# Altium schematic symbol library parallella_schematic_Library.SchLib: 113 symbols (part 2 of 3)
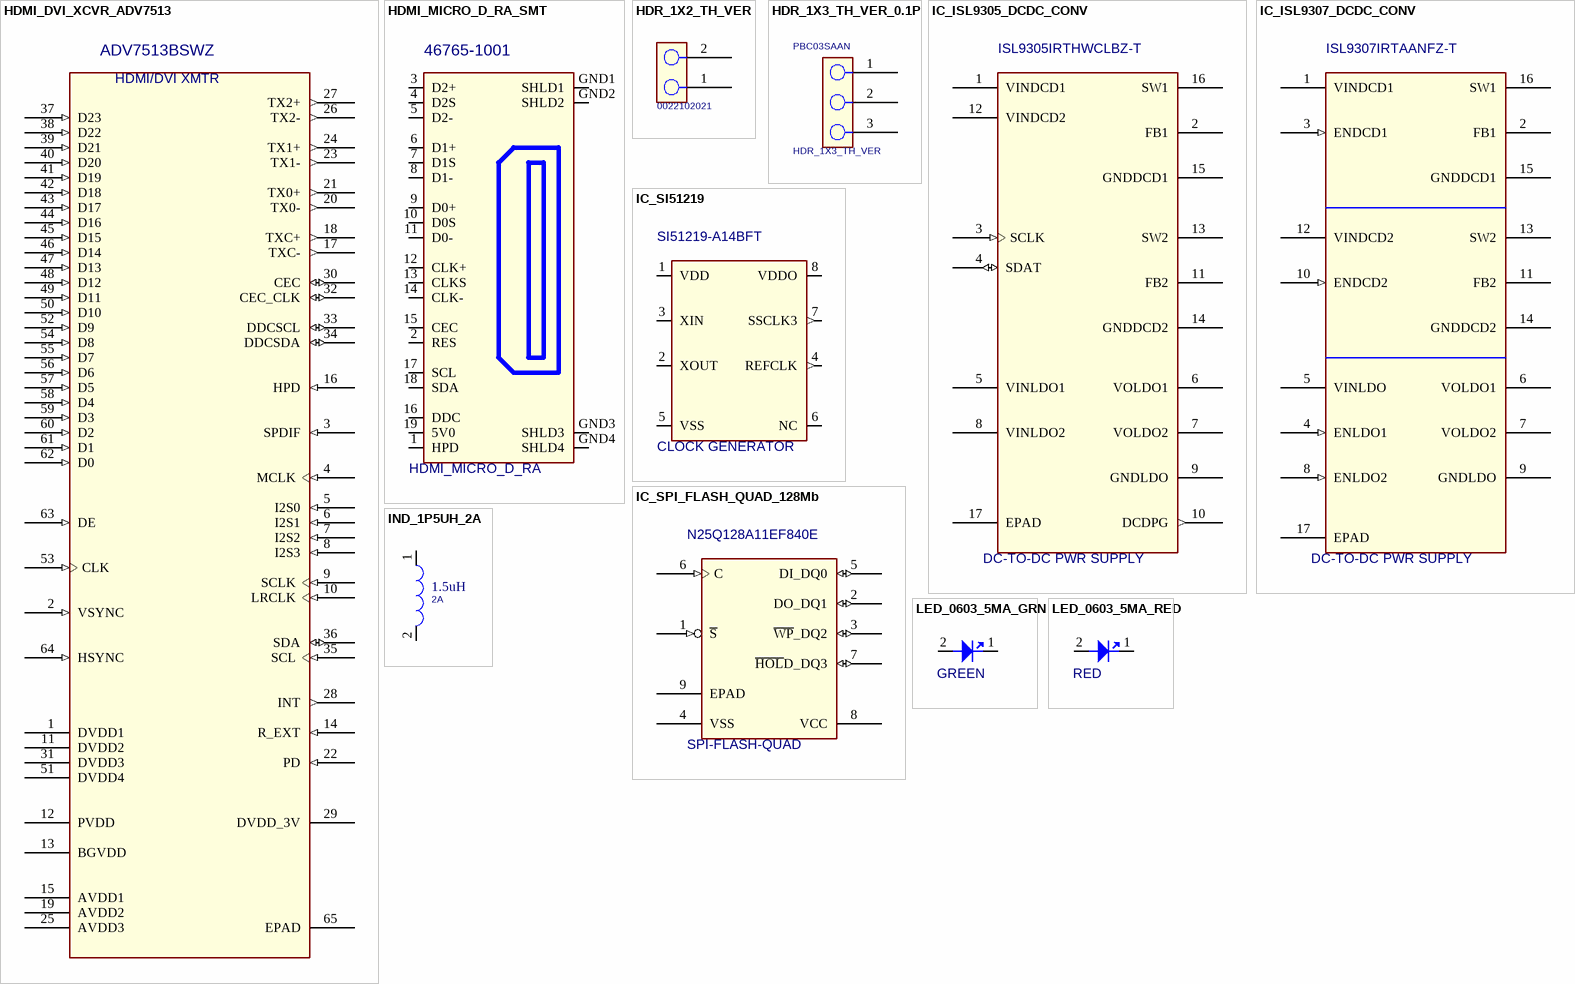
[diagram p24: symbols HDMI_DVI_XCVR_ADV7513 to LED_0603_5MA_RED]

## HDMI_MICRO_D_RA_SMT
designator J?, comment HDMI_MICRO_D_RA  MFG PART NO: 46765-1001
CONN, HDMI, RCPT, MICRO D, RA, SMT; Vendor: MOLEX; DEVICE: HDMI_MICRO_D_RA_SMT; Vendor PN: 46765-1001; MFG: MOLEX
footprint HDMI_MICRO19_6P5X7P5X2P9H_P4P
pins: 1 HPD, 2 RES, 3 D2+, 4 D2S, 5 D2-, 6 D1+, 7 D1S, 8 D1-, 9 D0+, 10 D0S, 11 D0-, 12 CLK+, 13 CLKS, 14 CLK-, 15 CEC, 16 DDC, 17 SCL, 18 SDA, 19 5V0 (power), GND1 SHLD1, GND2 SHLD2, GND3 SHLD3, GND4 SHLD4

## HDR_1X2_TH_VER
designator J?  Vendor PN: 0022102021  (hidden comment: HDR_1X2_TH_VER)
HDR, 1ROW, 2POS, VERT, TH, 1X2; MFG: MOLEX; DEVICE: HDR_1X2_TH_VER; MFG PART NO: 0022102021; Vendor: MOLEX
footprint HDR_1X2_TH_VER
pins: 1, 2

## HDR_1X3_TH_VER_0.1P
designator J?, comment HDR_1X3_TH_VER  Vendor PN: PBC03SAAN
HDR, 1ROW, 3POS, VERT, TH, 1X3, 0.100 PITCH; MFG PART NO: PBC36SAAN; Vendor: SULLINS; DEVICE: HDR_1X3_TH_VER_0.1P; MFG: SULLINS
footprint HDR_1X3_TH_VER
pins: 1, 2, 3

## IC_ISL9305_DCDC_CONV
designator U?, comment DC-TO-DC PWR SUPPLY  Vendor PN: ISL9305IRTHWCLBZ-T
IC, dual step-down converters + dual LDOs, I2C interface, TQFN16; MFG: INTERSIL; DEVICE: IC_ISL9305_DCDC_CONV; MFG PART NO: ISL9305IRTHWCLBZ-T; Vendor: INTERSIL
footprint TQFN16_4SQXP75H_P65P
pins: 1 VINDCD1, 2 FB1, 3 SCLK (in), 4 SDAT (io), 5 VINLDO1, 6 VOLDO1, 7 VOLDO2, 8 VINLDO2, 9 GNDLDO (power), 10 DCDPG (out), 11 FB2, 12 VINDCD2, 13 SW2, 14 GNDDCD2 (power), 15 GNDDCD1 (power), 16 SW1, 17 EPAD

## IC_ISL9307_DCDC_CONV
designator U?, comment DC-TO-DC PWR SUPPLY  Vendor PN: ISL9307IRTAANFZ-T
IC, dual step-down converters + dual LDOs, TQFN16; MFG: INTERSIL; DEVICE: IC_ISL9307_DCDC_CONV; MFG PART NO: ISL9307IRTAANFZ-T; Vendor: INTERSIL
footprint TQFN16_4SQXP75H_P65P
pins: 1 VINDCD1, 2 FB1, 3 ENDCD1 (in), 4 ENLDO1 (in), 5 VINLDO, 6 VOLDO1, 7 VOLDO2, 8 ENLDO2 (in), 9 GNDLDO (power), 10 ENDCD2 (in), 11 FB2, 12 VINDCD2, 13 SW2, 14 GNDDCD2 (power), 15 GNDDCD1 (power), 16 SW1, 17 EPAD

## IC_SI51219
designator U?, comment CLOCK GENERATOR  MFG PART NO: SI51219-A14BFT
IC, PROGRAMMABLE CLOCK GEN, 3 OUTPUTS, TSSOP8; MFG: SILICON LABS; Vendor: SILICON LABS; Vendor PN: SI51219-A14BFT
footprint TSSOP8_3X4P4X1P2H_P65MMP
pins: 1 VDD (power), 2 XOUT (io), 3 XIN (io), 4 REFCLK (out), 5 VSS (power), 6 NC, 7 SSCLK3 (out), 8 VDDO (power)

## IC_SPI_FLASH_QUAD_128Mb
designator U?, comment SPI-FLASH-QUAD  Vendor PN: N25Q128A11EF840E
SPI FLASH, QUAD, 128M-BIT, VPDFN8, 1.8V; MFG: MICRON; DEVICE: IC_SPI_FLASH_QUAD_128Mb; MFG PART NO: N25Q128A11EF840E; Vendor: MICRON
footprint VPDFN-8_6X8XP85H_1P27MMP
pins: 1 ~{S} (in), 2 DO_DQ1 (io), 3 ~{WP}_DQ2 (io), 4 VSS (power), 5 DI_DQ0 (io), 6 C (in), 7 ~{HOL}D_DQ3 (io), 8 VCC (power), 9 EPAD (power)

## IND_1P5UH_2A
designator L?, comment 1.5uH  CURRENT: 2A
IND, 1.5uH, 2A; MFG PART NO: VLS252012ET-1R5N; DEVICE: IND_1P5UH_2A; MFG: TDK; Vendor: TDK; Vendor PN: VLS252012ET-1R5N
footprint IND2_2X2P5X1P2MMH
pins: 1, 2

## LED_0603_5MA_GRN
designator CR?, comment GREEN
LED, 0603, 5MA, SMT, GREEN; MFG PART NO: LTST-C193KGKT-5A; Voltage: 2V; MFG: LITE-ON INC; Vendor: LITE-ON INC; Vendor PN: LTST-C193KGKT-5A
footprint LED_0603
pins: 1 C, 2 A

## LED_0603_5MA_RED
designator CR?, comment RED
LED, 0603, 5MA, SMT, RED; MFG PART NO: LTST-C193KRKT-5A; Voltage: 2V; MFG: LITE-ON INC; Vendor: LITE-ON INC; Vendor PN: LTST-C193KRKT-5A
footprint LED_0603
pins: 1 C, 2 A

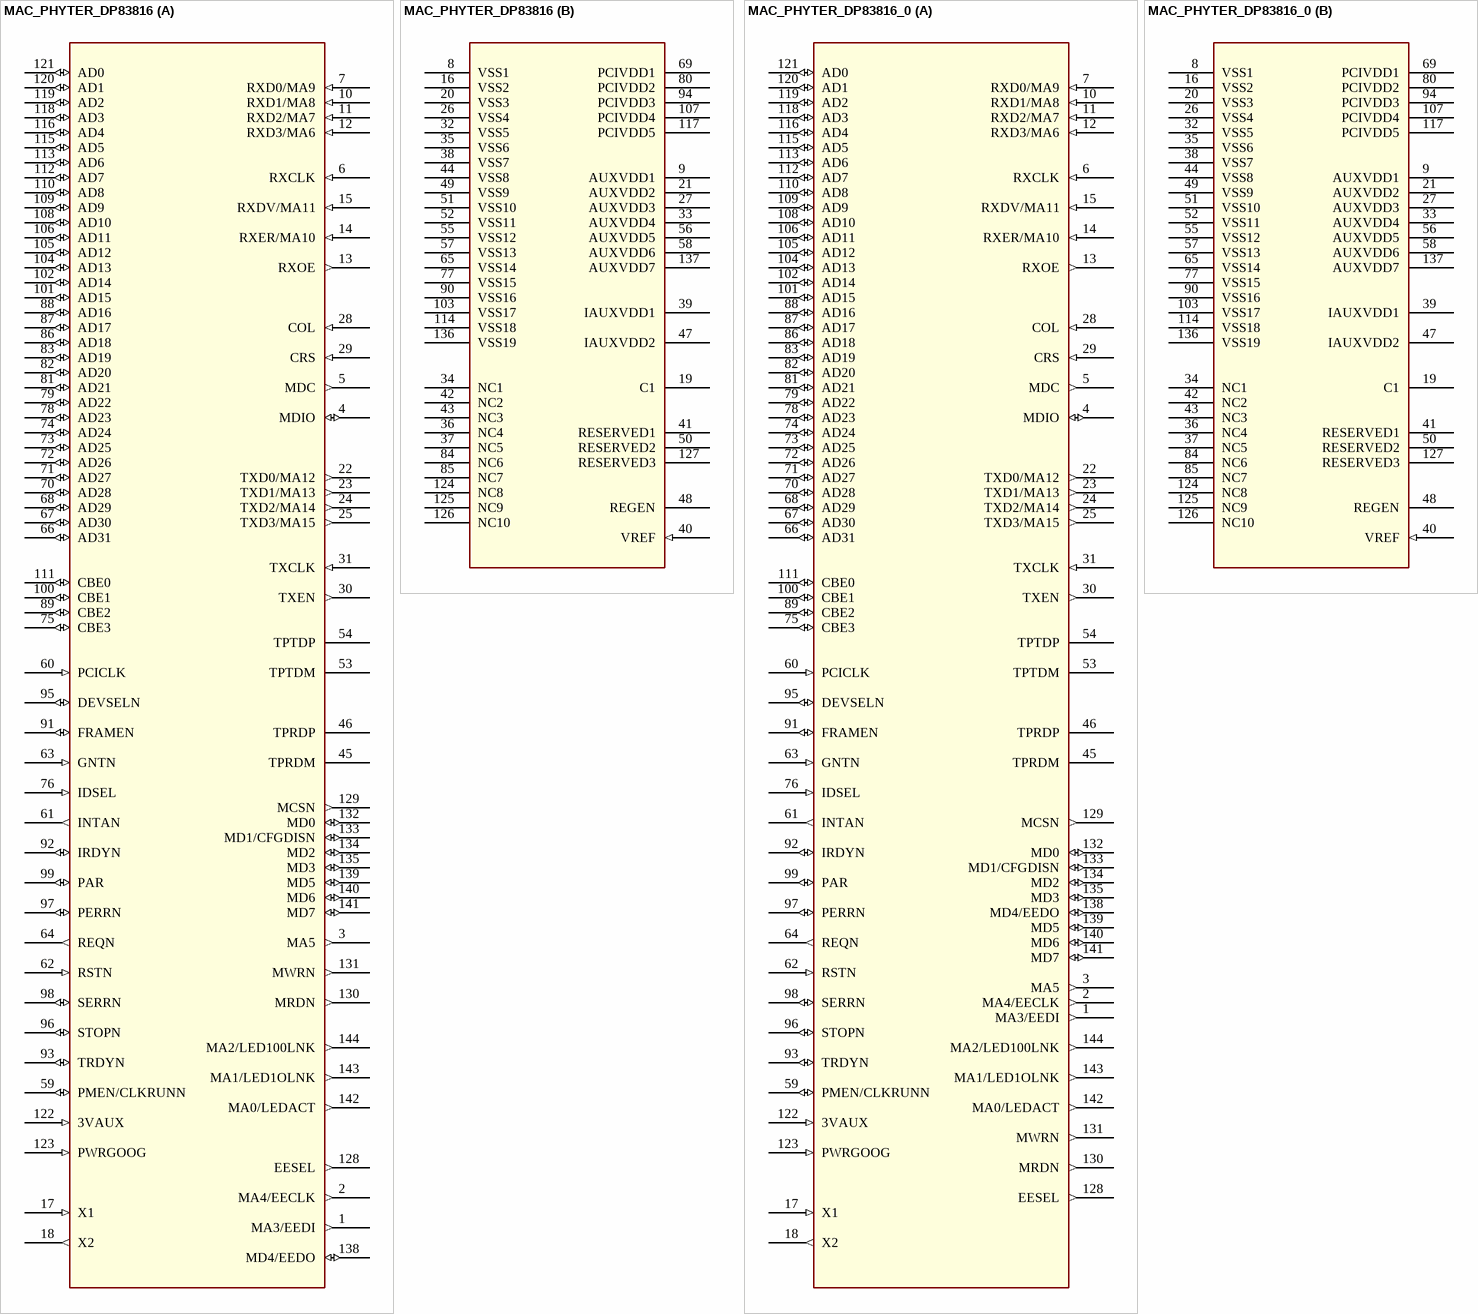
[diagram p10: symbols MAC_PHYTER_DP83816 to MAC_PHYTER_DP83816_0]

## MAC_PHYTER_DP83816
designator U?, comment ETHERNET_MAC  (value not drawn)
DEVICE: ICXXXXXX; PART_NUMBER: ICXXXXXX
footprint VNG144A
part A pins: 1 MA3/EEDI (out), 2 MA4/EECLK (out), 3 MA5 (out), 4 MDIO (io), 5 MDC (out), 6 RXCLK (in), 7 RXD0/MA9 (in), 10 RXD1/MA8 (in), 11 RXD2/MA7 (in), 12 RXD3/MA6 (in), 13 RXOE (out), 14 RXER/MA10 (in), 15 RXDV/MA11 (in), 17 X1 (in), 18 X2 (out), 22 TXD0/MA12 (out), 23 TXD1/MA13 (out), 24 TXD2/MA14 (out), 25 TXD3/MA15 (out), 28 COL (in), 29 CRS (in), 30 TXEN (out), 31 TXCLK (in), 45 TPRDM, 46 TPRDP, 53 TPTDM, 54 TPTDP, 59 PMEN/CLKRUNN (io), 60 PCICLK (in), 61 INTAN (out), 62 RSTN (in), 63 GNTN (in), 64 REQN (out), 66 AD31 (io), 67 AD30 (io), 68 AD29 (io), 70 AD28 (io), 71 AD27 (io), 72 AD26 (io), 73 AD25 (io), 74 AD24 (io), 75 CBE3 (io), 76 IDSEL (in), 78 AD23 (io), 79 AD22 (io), 81 AD21 (io), 82 AD20 (io), 83 AD19 (io), 86 AD18 (io), 87 AD17 (io), 88 AD16 (io), 89 CBE2 (io), 91 FRAMEN (io), 92 IRDYN (io), 93 TRDYN (io), 95 DEVSELN (io), 96 STOPN (io), 97 PERRN (io), 98 SERRN (io), 99 PAR (io), 100 CBE1 (io), 101 AD15 (io), 102 AD14 (io), 104 AD13 (io), 105 AD12 (io), 106 AD11 (io), 108 AD10 (io), 109 AD9 (io), 110 AD8 (io), 111 CBE0 (io), 112 AD7 (io), 113 AD6 (io), 115 AD5 (io), 116 AD4 (io), 118 AD3 (io), 119 AD2 (io), 120 AD1 (io), 121 AD0 (io), 122 3VAUX (in), 123 PWRGOOG (in), 128 EESEL (out), 129 MCSN (out), 130 MRDN (out), 131 MWRN (out), 132 MD0 (io), 133 MD1/CFGDISN (io), 134 MD2 (io), 135 MD3 (io), 138 MD4/EEDO (io), 139 MD5 (io), 140 MD6 (io), 141 MD7 (io), 142 MA0/LEDACT (out), 143 MA1/LED1OLNK (out), 144 MA2/LED100LNK (out)
part B pins: 8 VSS1 (power), 9 AUXVDD1 (power), 16 VSS2 (power), 19 C1 (power), 20 VSS3 (power), 21 AUXVDD2 (power), 26 VSS4 (power), 27 AUXVDD3 (power), 32 VSS5 (power), 33 AUXVDD4 (power), 34 NC1, 35 VSS6 (power), 36 NC4, 37 NC5, 38 VSS7 (power), 39 IAUXVDD1 (power), 40 VREF (in), 41 RESERVED1, 42 NC2, 43 NC3, 44 VSS8 (power), 47 IAUXVDD2 (power), 48 REGEN, 49 VSS9 (power), 50 RESERVED2, 51 VSS10 (power), 52 VSS11 (power), 55 VSS12 (power), 56 AUXVDD5 (power), 57 VSS13 (power), 58 AUXVDD6 (power), 65 VSS14 (power), 69 PCIVDD1 (power), 77 VSS15 (power), 80 PCIVDD2 (power), 84 NC6, 85 NC7, 90 VSS16 (power), 94 PCIVDD3 (power), 103 VSS17 (power), 107 PCIVDD4 (power), 114 VSS18 (power), 117 PCIVDD5 (power), 124 NC8, 125 NC9, 126 NC10, 127 RESERVED3, 136 VSS19 (power), 137 AUXVDD7 (power)

## MAC_PHYTER_DP83816_0
designator U?, comment ETHERNET_MAC  (value not drawn)
DEVICE: ICXXXXXX; PART_NUMBER: ICXXXXXX
footprint VNG144A
part A pins: 1 MA3/EEDI (out), 2 MA4/EECLK (out), 3 MA5 (out), 4 MDIO (io), 5 MDC (out), 6 RXCLK (in), 7 RXD0/MA9 (in), 10 RXD1/MA8 (in), 11 RXD2/MA7 (in), 12 RXD3/MA6 (in), 13 RXOE (out), 14 RXER/MA10 (in), 15 RXDV/MA11 (in), 17 X1 (in), 18 X2 (out), 22 TXD0/MA12 (out), 23 TXD1/MA13 (out), 24 TXD2/MA14 (out), 25 TXD3/MA15 (out), 28 COL (in), 29 CRS (in), 30 TXEN (out), 31 TXCLK (in), 45 TPRDM, 46 TPRDP, 53 TPTDM, 54 TPTDP, 59 PMEN/CLKRUNN (io), 60 PCICLK (in), 61 INTAN (out), 62 RSTN (in), 63 GNTN (in), 64 REQN (out), 66 AD31 (io), 67 AD30 (io), 68 AD29 (io), 70 AD28 (io), 71 AD27 (io), 72 AD26 (io), 73 AD25 (io), 74 AD24 (io), 75 CBE3 (io), 76 IDSEL (in), 78 AD23 (io), 79 AD22 (io), 81 AD21 (io), 82 AD20 (io), 83 AD19 (io), 86 AD18 (io), 87 AD17 (io), 88 AD16 (io), 89 CBE2 (io), 91 FRAMEN (io), 92 IRDYN (io), 93 TRDYN (io), 95 DEVSELN (io), 96 STOPN (io), 97 PERRN (io), 98 SERRN (io), 99 PAR (io), 100 CBE1 (io), 101 AD15 (io), 102 AD14 (io), 104 AD13 (io), 105 AD12 (io), 106 AD11 (io), 108 AD10 (io), 109 AD9 (io), 110 AD8 (io), 111 CBE0 (io), 112 AD7 (io), 113 AD6 (io), 115 AD5 (io), 116 AD4 (io), 118 AD3 (io), 119 AD2 (io), 120 AD1 (io), 121 AD0 (io), 122 3VAUX (in), 123 PWRGOOG (in), 128 EESEL (out), 129 MCSN (out), 130 MRDN (out), 131 MWRN (out), 132 MD0 (io), 133 MD1/CFGDISN (io), 134 MD2 (io), 135 MD3 (io), 138 MD4/EEDO (io), 139 MD5 (io), 140 MD6 (io), 141 MD7 (io), 142 MA0/LEDACT (out), 143 MA1/LED1OLNK (out), 144 MA2/LED100LNK (out)
part B pins: 8 VSS1 (power), 9 AUXVDD1 (power), 16 VSS2 (power), 19 C1 (power), 20 VSS3 (power), 21 AUXVDD2 (power), 26 VSS4 (power), 27 AUXVDD3 (power), 32 VSS5 (power), 33 AUXVDD4 (power), 34 NC1, 35 VSS6 (power), 36 NC4, 37 NC5, 38 VSS7 (power), 39 IAUXVDD1 (power), 40 VREF (in), 41 RESERVED1, 42 NC2, 43 NC3, 44 VSS8 (power), 47 IAUXVDD2 (power), 48 REGEN, 49 VSS9 (power), 50 RESERVED2, 51 VSS10 (power), 52 VSS11 (power), 55 VSS12 (power), 56 AUXVDD5 (power), 57 VSS13 (power), 58 AUXVDD6 (power), 65 VSS14 (power), 69 PCIVDD1 (power), 77 VSS15 (power), 80 PCIVDD2 (power), 84 NC6, 85 NC7, 90 VSS16 (power), 94 PCIVDD3 (power), 103 VSS17 (power), 107 PCIVDD4 (power), 114 VSS18 (power), 117 PCIVDD5 (power), 124 NC8, 125 NC9, 126 NC10, 127 RESERVED3, 136 VSS19 (power), 137 AUXVDD7 (power)

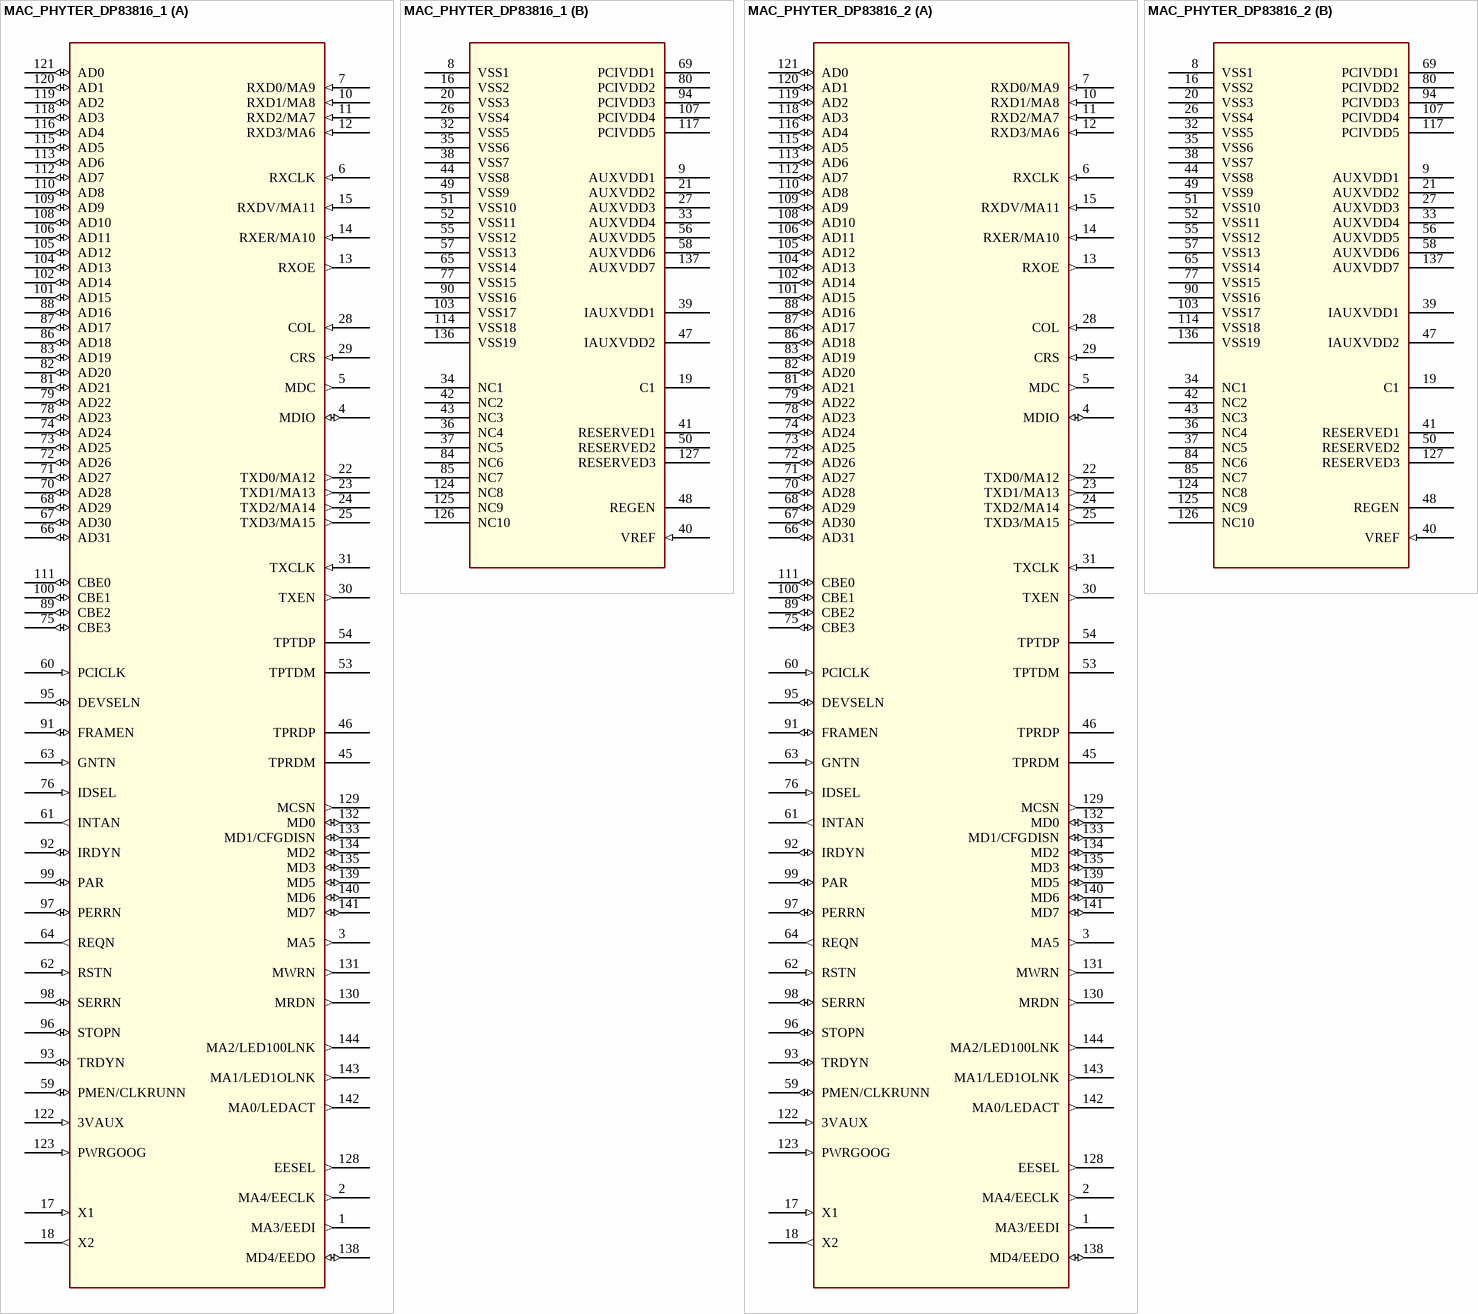
[diagram p11: symbols MAC_PHYTER_DP83816_1 to MAC_PHYTER_DP83816_2]

## MAC_PHYTER_DP83816_1
designator U?, comment ETHERNET_MAC  (value not drawn)
DEVICE: ICXXXXXX; PART_NUMBER: ICXXXXXX
footprint VNG144A
part A pins: 1 MA3/EEDI (out), 2 MA4/EECLK (out), 3 MA5 (out), 4 MDIO (io), 5 MDC (out), 6 RXCLK (in), 7 RXD0/MA9 (in), 10 RXD1/MA8 (in), 11 RXD2/MA7 (in), 12 RXD3/MA6 (in), 13 RXOE (out), 14 RXER/MA10 (in), 15 RXDV/MA11 (in), 17 X1 (in), 18 X2 (out), 22 TXD0/MA12 (out), 23 TXD1/MA13 (out), 24 TXD2/MA14 (out), 25 TXD3/MA15 (out), 28 COL (in), 29 CRS (in), 30 TXEN (out), 31 TXCLK (in), 45 TPRDM, 46 TPRDP, 53 TPTDM, 54 TPTDP, 59 PMEN/CLKRUNN (io), 60 PCICLK (in), 61 INTAN (out), 62 RSTN (in), 63 GNTN (in), 64 REQN (out), 66 AD31 (io), 67 AD30 (io), 68 AD29 (io), 70 AD28 (io), 71 AD27 (io), 72 AD26 (io), 73 AD25 (io), 74 AD24 (io), 75 CBE3 (io), 76 IDSEL (in), 78 AD23 (io), 79 AD22 (io), 81 AD21 (io), 82 AD20 (io), 83 AD19 (io), 86 AD18 (io), 87 AD17 (io), 88 AD16 (io), 89 CBE2 (io), 91 FRAMEN (io), 92 IRDYN (io), 93 TRDYN (io), 95 DEVSELN (io), 96 STOPN (io), 97 PERRN (io), 98 SERRN (io), 99 PAR (io), 100 CBE1 (io), 101 AD15 (io), 102 AD14 (io), 104 AD13 (io), 105 AD12 (io), 106 AD11 (io), 108 AD10 (io), 109 AD9 (io), 110 AD8 (io), 111 CBE0 (io), 112 AD7 (io), 113 AD6 (io), 115 AD5 (io), 116 AD4 (io), 118 AD3 (io), 119 AD2 (io), 120 AD1 (io), 121 AD0 (io), 122 3VAUX (in), 123 PWRGOOG (in), 128 EESEL (out), 129 MCSN (out), 130 MRDN (out), 131 MWRN (out), 132 MD0 (io), 133 MD1/CFGDISN (io), 134 MD2 (io), 135 MD3 (io), 138 MD4/EEDO (io), 139 MD5 (io), 140 MD6 (io), 141 MD7 (io), 142 MA0/LEDACT (out), 143 MA1/LED1OLNK (out), 144 MA2/LED100LNK (out)
part B pins: 8 VSS1 (power), 9 AUXVDD1 (power), 16 VSS2 (power), 19 C1 (power), 20 VSS3 (power), 21 AUXVDD2 (power), 26 VSS4 (power), 27 AUXVDD3 (power), 32 VSS5 (power), 33 AUXVDD4 (power), 34 NC1, 35 VSS6 (power), 36 NC4, 37 NC5, 38 VSS7 (power), 39 IAUXVDD1 (power), 40 VREF (in), 41 RESERVED1, 42 NC2, 43 NC3, 44 VSS8 (power), 47 IAUXVDD2 (power), 48 REGEN, 49 VSS9 (power), 50 RESERVED2, 51 VSS10 (power), 52 VSS11 (power), 55 VSS12 (power), 56 AUXVDD5 (power), 57 VSS13 (power), 58 AUXVDD6 (power), 65 VSS14 (power), 69 PCIVDD1 (power), 77 VSS15 (power), 80 PCIVDD2 (power), 84 NC6, 85 NC7, 90 VSS16 (power), 94 PCIVDD3 (power), 103 VSS17 (power), 107 PCIVDD4 (power), 114 VSS18 (power), 117 PCIVDD5 (power), 124 NC8, 125 NC9, 126 NC10, 127 RESERVED3, 136 VSS19 (power), 137 AUXVDD7 (power)

## MAC_PHYTER_DP83816_2
designator U?, comment ETHERNET_MAC  (value not drawn)
DEVICE: ICXXXXXX; PART_NUMBER: ICXXXXXX
footprint VNG144A
part A pins: 1 MA3/EEDI (out), 2 MA4/EECLK (out), 3 MA5 (out), 4 MDIO (io), 5 MDC (out), 6 RXCLK (in), 7 RXD0/MA9 (in), 10 RXD1/MA8 (in), 11 RXD2/MA7 (in), 12 RXD3/MA6 (in), 13 RXOE (out), 14 RXER/MA10 (in), 15 RXDV/MA11 (in), 17 X1 (in), 18 X2 (out), 22 TXD0/MA12 (out), 23 TXD1/MA13 (out), 24 TXD2/MA14 (out), 25 TXD3/MA15 (out), 28 COL (in), 29 CRS (in), 30 TXEN (out), 31 TXCLK (in), 45 TPRDM, 46 TPRDP, 53 TPTDM, 54 TPTDP, 59 PMEN/CLKRUNN (io), 60 PCICLK (in), 61 INTAN (out), 62 RSTN (in), 63 GNTN (in), 64 REQN (out), 66 AD31 (io), 67 AD30 (io), 68 AD29 (io), 70 AD28 (io), 71 AD27 (io), 72 AD26 (io), 73 AD25 (io), 74 AD24 (io), 75 CBE3 (io), 76 IDSEL (in), 78 AD23 (io), 79 AD22 (io), 81 AD21 (io), 82 AD20 (io), 83 AD19 (io), 86 AD18 (io), 87 AD17 (io), 88 AD16 (io), 89 CBE2 (io), 91 FRAMEN (io), 92 IRDYN (io), 93 TRDYN (io), 95 DEVSELN (io), 96 STOPN (io), 97 PERRN (io), 98 SERRN (io), 99 PAR (io), 100 CBE1 (io), 101 AD15 (io), 102 AD14 (io), 104 AD13 (io), 105 AD12 (io), 106 AD11 (io), 108 AD10 (io), 109 AD9 (io), 110 AD8 (io), 111 CBE0 (io), 112 AD7 (io), 113 AD6 (io), 115 AD5 (io), 116 AD4 (io), 118 AD3 (io), 119 AD2 (io), 120 AD1 (io), 121 AD0 (io), 122 3VAUX (in), 123 PWRGOOG (in), 128 EESEL (out), 129 MCSN (out), 130 MRDN (out), 131 MWRN (out), 132 MD0 (io), 133 MD1/CFGDISN (io), 134 MD2 (io), 135 MD3 (io), 138 MD4/EEDO (io), 139 MD5 (io), 140 MD6 (io), 141 MD7 (io), 142 MA0/LEDACT (out), 143 MA1/LED1OLNK (out), 144 MA2/LED100LNK (out)
part B pins: 8 VSS1 (power), 9 AUXVDD1 (power), 16 VSS2 (power), 19 C1 (power), 20 VSS3 (power), 21 AUXVDD2 (power), 26 VSS4 (power), 27 AUXVDD3 (power), 32 VSS5 (power), 33 AUXVDD4 (power), 34 NC1, 35 VSS6 (power), 36 NC4, 37 NC5, 38 VSS7 (power), 39 IAUXVDD1 (power), 40 VREF (in), 41 RESERVED1, 42 NC2, 43 NC3, 44 VSS8 (power), 47 IAUXVDD2 (power), 48 REGEN, 49 VSS9 (power), 50 RESERVED2, 51 VSS10 (power), 52 VSS11 (power), 55 VSS12 (power), 56 AUXVDD5 (power), 57 VSS13 (power), 58 AUXVDD6 (power), 65 VSS14 (power), 69 PCIVDD1 (power), 77 VSS15 (power), 80 PCIVDD2 (power), 84 NC6, 85 NC7, 90 VSS16 (power), 94 PCIVDD3 (power), 103 VSS17 (power), 107 PCIVDD4 (power), 114 VSS18 (power), 117 PCIVDD5 (power), 124 NC8, 125 NC9, 126 NC10, 127 RESERVED3, 136 VSS19 (power), 137 AUXVDD7 (power)

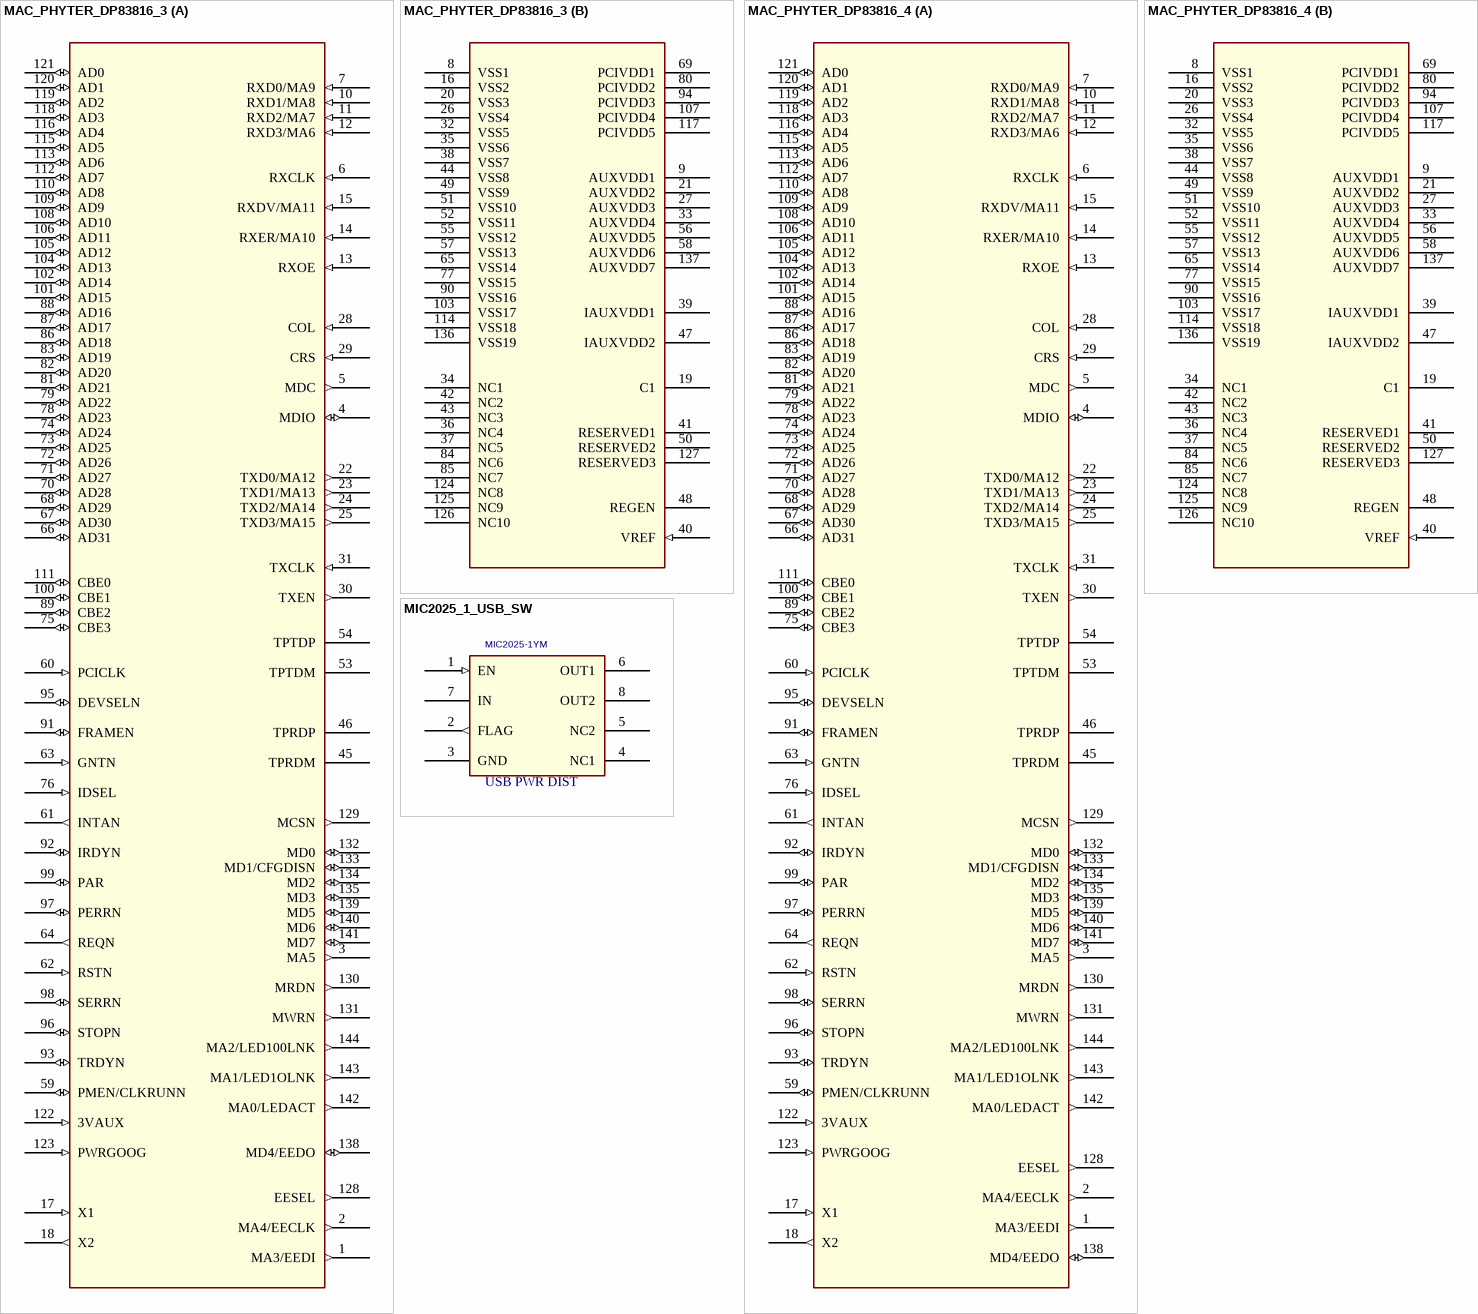
[diagram p12: symbols MAC_PHYTER_DP83816_3 to MIC2025_1_USB_SW]

## MAC_PHYTER_DP83816_3
designator U?, comment ETHERNET_MAC  (value not drawn)
DEVICE: ICXXXXXX; PART_NUMBER: ICXXXXXX
footprint VNG144A
part A pins: 1 MA3/EEDI (out), 2 MA4/EECLK (out), 3 MA5 (out), 4 MDIO (io), 5 MDC (out), 6 RXCLK (in), 7 RXD0/MA9 (in), 10 RXD1/MA8 (in), 11 RXD2/MA7 (in), 12 RXD3/MA6 (in), 13 RXOE (in), 14 RXER/MA10 (in), 15 RXDV/MA11 (in), 17 X1 (in), 18 X2 (out), 22 TXD0/MA12 (out), 23 TXD1/MA13 (out), 24 TXD2/MA14 (out), 25 TXD3/MA15 (out), 28 COL (in), 29 CRS (in), 30 TXEN (out), 31 TXCLK (in), 45 TPRDM, 46 TPRDP, 53 TPTDM, 54 TPTDP, 59 PMEN/CLKRUNN (io), 60 PCICLK (in), 61 INTAN (out), 62 RSTN (in), 63 GNTN (in), 64 REQN (out), 66 AD31 (io), 67 AD30 (io), 68 AD29 (io), 70 AD28 (io), 71 AD27 (io), 72 AD26 (io), 73 AD25 (io), 74 AD24 (io), 75 CBE3 (io), 76 IDSEL (in), 78 AD23 (io), 79 AD22 (io), 81 AD21 (io), 82 AD20 (io), 83 AD19 (io), 86 AD18 (io), 87 AD17 (io), 88 AD16 (io), 89 CBE2 (io), 91 FRAMEN (io), 92 IRDYN (io), 93 TRDYN (io), 95 DEVSELN (io), 96 STOPN (io), 97 PERRN (io), 98 SERRN (io), 99 PAR (io), 100 CBE1 (io), 101 AD15 (io), 102 AD14 (io), 104 AD13 (io), 105 AD12 (io), 106 AD11 (io), 108 AD10 (io), 109 AD9 (io), 110 AD8 (io), 111 CBE0 (io), 112 AD7 (io), 113 AD6 (io), 115 AD5 (io), 116 AD4 (io), 118 AD3 (io), 119 AD2 (io), 120 AD1 (io), 121 AD0 (io), 122 3VAUX (in), 123 PWRGOOG (in), 128 EESEL (out), 129 MCSN (out), 130 MRDN (out), 131 MWRN (out), 132 MD0 (io), 133 MD1/CFGDISN (io), 134 MD2 (io), 135 MD3 (io), 138 MD4/EEDO (io), 139 MD5 (io), 140 MD6 (io), 141 MD7 (io), 142 MA0/LEDACT (out), 143 MA1/LED1OLNK (out), 144 MA2/LED100LNK (out)
part B pins: 8 VSS1 (power), 9 AUXVDD1 (power), 16 VSS2 (power), 19 C1 (power), 20 VSS3 (power), 21 AUXVDD2 (power), 26 VSS4 (power), 27 AUXVDD3 (power), 32 VSS5 (power), 33 AUXVDD4 (power), 34 NC1, 35 VSS6 (power), 36 NC4, 37 NC5, 38 VSS7 (power), 39 IAUXVDD1 (power), 40 VREF (in), 41 RESERVED1, 42 NC2, 43 NC3, 44 VSS8 (power), 47 IAUXVDD2 (power), 48 REGEN, 49 VSS9 (power), 50 RESERVED2, 51 VSS10 (power), 52 VSS11 (power), 55 VSS12 (power), 56 AUXVDD5 (power), 57 VSS13 (power), 58 AUXVDD6 (power), 65 VSS14 (power), 69 PCIVDD1 (power), 77 VSS15 (power), 80 PCIVDD2 (power), 84 NC6, 85 NC7, 90 VSS16 (power), 94 PCIVDD3 (power), 103 VSS17 (power), 107 PCIVDD4 (power), 114 VSS18 (power), 117 PCIVDD5 (power), 124 NC8, 125 NC9, 126 NC10, 127 RESERVED3, 136 VSS19 (power), 137 AUXVDD7 (power)

## MAC_PHYTER_DP83816_4
designator U?, comment ETHERNET_MAC  (value not drawn)
DEVICE: ICXXXXXX; PART_NUMBER: ICXXXXXX
footprint VNG144A
part A pins: 1 MA3/EEDI (out), 2 MA4/EECLK (out), 3 MA5 (out), 4 MDIO (io), 5 MDC (out), 6 RXCLK (in), 7 RXD0/MA9 (in), 10 RXD1/MA8 (in), 11 RXD2/MA7 (in), 12 RXD3/MA6 (in), 13 RXOE (in), 14 RXER/MA10 (in), 15 RXDV/MA11 (in), 17 X1 (in), 18 X2 (out), 22 TXD0/MA12 (out), 23 TXD1/MA13 (out), 24 TXD2/MA14 (out), 25 TXD3/MA15 (out), 28 COL (in), 29 CRS (in), 30 TXEN (out), 31 TXCLK (in), 45 TPRDM, 46 TPRDP, 53 TPTDM, 54 TPTDP, 59 PMEN/CLKRUNN (io), 60 PCICLK (in), 61 INTAN (out), 62 RSTN (in), 63 GNTN (in), 64 REQN (out), 66 AD31 (io), 67 AD30 (io), 68 AD29 (io), 70 AD28 (io), 71 AD27 (io), 72 AD26 (io), 73 AD25 (io), 74 AD24 (io), 75 CBE3 (io), 76 IDSEL (in), 78 AD23 (io), 79 AD22 (io), 81 AD21 (io), 82 AD20 (io), 83 AD19 (io), 86 AD18 (io), 87 AD17 (io), 88 AD16 (io), 89 CBE2 (io), 91 FRAMEN (io), 92 IRDYN (io), 93 TRDYN (io), 95 DEVSELN (io), 96 STOPN (io), 97 PERRN (io), 98 SERRN (io), 99 PAR (io), 100 CBE1 (io), 101 AD15 (io), 102 AD14 (io), 104 AD13 (io), 105 AD12 (io), 106 AD11 (io), 108 AD10 (io), 109 AD9 (io), 110 AD8 (io), 111 CBE0 (io), 112 AD7 (io), 113 AD6 (io), 115 AD5 (io), 116 AD4 (io), 118 AD3 (io), 119 AD2 (io), 120 AD1 (io), 121 AD0 (io), 122 3VAUX (in), 123 PWRGOOG (in), 128 EESEL (out), 129 MCSN (out), 130 MRDN (out), 131 MWRN (out), 132 MD0 (io), 133 MD1/CFGDISN (io), 134 MD2 (io), 135 MD3 (io), 138 MD4/EEDO (io), 139 MD5 (io), 140 MD6 (io), 141 MD7 (io), 142 MA0/LEDACT (out), 143 MA1/LED1OLNK (out), 144 MA2/LED100LNK (out)
part B pins: 8 VSS1 (power), 9 AUXVDD1 (power), 16 VSS2 (power), 19 C1 (power), 20 VSS3 (power), 21 AUXVDD2 (power), 26 VSS4 (power), 27 AUXVDD3 (power), 32 VSS5 (power), 33 AUXVDD4 (power), 34 NC1, 35 VSS6 (power), 36 NC4, 37 NC5, 38 VSS7 (power), 39 IAUXVDD1 (power), 40 VREF (in), 41 RESERVED1, 42 NC2, 43 NC3, 44 VSS8 (power), 47 IAUXVDD2 (power), 48 REGEN, 49 VSS9 (power), 50 RESERVED2, 51 VSS10 (power), 52 VSS11 (power), 55 VSS12 (power), 56 AUXVDD5 (power), 57 VSS13 (power), 58 AUXVDD6 (power), 65 VSS14 (power), 69 PCIVDD1 (power), 77 VSS15 (power), 80 PCIVDD2 (power), 84 NC6, 85 NC7, 90 VSS16 (power), 94 PCIVDD3 (power), 103 VSS17 (power), 107 PCIVDD4 (power), 114 VSS18 (power), 117 PCIVDD5 (power), 124 NC8, 125 NC9, 126 NC10, 127 RESERVED3, 136 VSS19 (power), 137 AUXVDD7 (power)

## MIC2025_1_USB_SW
designator U?, comment USB PWR DIST  Vendor PN: MIC2025-1YM
IC, USB DISTRIBUTION SW, 1 CH, SOIC8; DEVICE: MIC2025_1_USB_SW; Vendor: MICREL
footprint SOIC8_33P94X4P93X1P63H_P65P
pins: 1 EN (in), 2 FLAG (out), 3 GND (power), 4 NC1, 5 NC2, 6 OUT1 (power), 7 IN (power), 8 OUT2 (power)

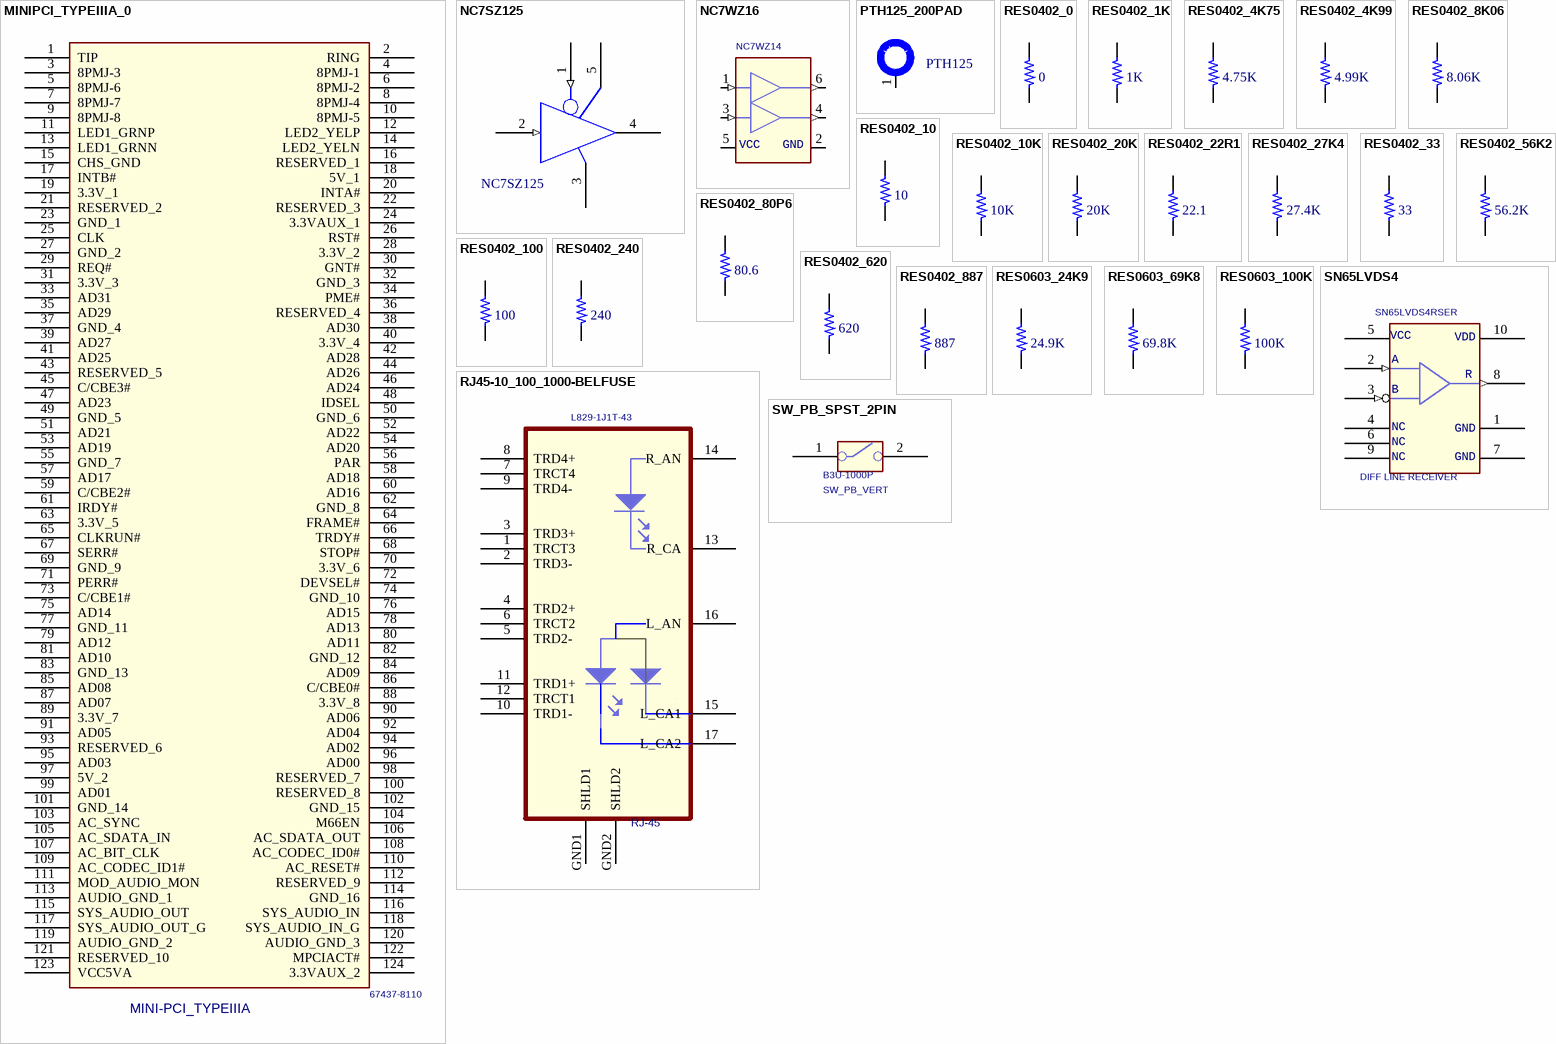
[diagram p13: symbols MINIPCI_TYPEIIIA_0 to SW_PB_SPST_2PIN]

## MINIPCI_TYPEIIIA_0
designator J?, comment MINI-PCI_TYPEIIIA  PART_NUMBER: 67437-8110
Mini PCI, 124-pin, Type IIIA, 0.8mm Pitch, 4mm Hight; DEVICE: MINIPCI_TYPEIIIA
footprint CON_PCI5V
pins: 1 TIP, 2 RING, 3 8PMJ-3, 4 8PMJ-1, 5 8PMJ-6, 6 8PMJ-2, 7 8PMJ-7, 8 8PMJ-4, 9 8PMJ-8, 10 8PMJ-5, 11 LED1_GRNP, 12 LED2_YELP, 13 LED1_GRNN, 14 LED2_YELN, 15 CHS_GND, 16 RESERVED_1, 17 INTB#, 18 5V_1, 19 3.3V_1, 20 INTA#, 21 RESERVED_2, 22 RESERVED_3, 23 GND_1, 24 3.3VAUX_1, 25 CLK, 26 RST#, 27 GND_2, 28 3.3V_2, 29 REQ#, 30 GNT#, 31 3.3V_3, 32 GND_3, 33 AD31, 34 PME#, 35 AD29, 36 RESERVED_4, 37 GND_4, 38 AD30, 39 AD27, 40 3.3V_4, 41 AD25, 42 AD28, 43 RESERVED_5, 44 AD26, 45 C/CBE3#, 46 AD24, 47 AD23, 48 IDSEL, 49 GND_5, 50 GND_6, 51 AD21, 52 AD22, 53 AD19, 54 AD20, 55 GND_7, 56 PAR, 57 AD17, 58 AD18, 59 C/CBE2#, 60 AD16, 61 IRDY#, 62 GND_8, 63 3.3V_5, 64 FRAME#, 65 CLKRUN#, 66 TRDY#, 67 SERR#, 68 STOP#, 69 GND_9, 70 3.3V_6, 71 PERR#, 72 DEVSEL#, 73 C/CBE1#, 74 GND_10, 75 AD14, 76 AD15, 77 GND_11, 78 AD13, 79 AD12, 80 AD11, 81 AD10, 82 GND_12, 83 GND_13, 84 AD09, 85 AD08, 86 C/CBE0#, 87 AD07, 88 3.3V_8, 89 3.3V_7, 90 AD06, 91 AD05, 92 AD04, 93 RESERVED_6, 94 AD02, 95 AD03, 96 AD00, 97 5V_2, 98 RESERVED_7, 99 AD01, 100 RESERVED_8, 101 GND_14, 102 GND_15, 103 AC_SYNC, 104 M66EN, 105 AC_SDATA_IN, 106 AC_SDATA_OUT, 107 AC_BIT_CLK, 108 AC_CODEC_ID0#, 109 AC_CODEC_ID1#, 110 AC_RESET#, 111 MOD_AUDIO_MON, 112 RESERVED_9, 113 AUDIO_GND_1, 114 GND_16, 115 SYS_AUDIO_OUT, 116 SYS_AUDIO_IN, 117 SYS_AUDIO_OUT_G, 118 SYS_AUDIO_IN_G, 119 AUDIO_GND_2, 120 AUDIO_GND_3, 121 RESERVED_10, 122 MPCIACT#, 123 VCC5VA, 124 3.3VAUX_2

## NC7SZ125
designator U?
PART_NUMBER: XXX-XXXXX-XX; Vendor PN: NC7SZ125M5X; VENDOR: FAIRCHILD; CLASS: IC; VENDOR_PN: NC7SZ125M5X; DEVICE: NC7SZ125; MFG: FAIRCHILD; MFG PART NO: NC7SZ125M5X
footprint SOT_5PIN
pins: 1 ~{OE} (in), 2 A (in), 3 GND, 4 Y (hiz), 5 VCC

## NC7WZ16
designator U?, comment NC7WZ14
MFG PART NO: NC7WZ16P6X; MFG: FAIRCHILD; DEVICE: NC7WZ16; Vendor: FAIRCHILD; Vendor PN: NC7WZ16P6X
footprint SC_70_6PSMT
pins: 1 A1 (in), 2 GND (power), 3 A2 (in), 4 Y2 (out), 5 VCC (power), 6 Y1 (out)

## PTH125_200PAD
designator PTH?, comment PTH125
DEVICE: PTH125_200PAD
footprint PTH125_200PAD
pins: 1

## RES0402_0
designator R?, comment 0
RES, 0402, 0 OHM, 1%; MFG PART NO: CRCW04020000Z0ED; ALT_SYMBOLS: R0402_BGA; DEVICE: RES0402_0; MFG: VISHAY; Vendor: VISHAY/DALE; Vendor PN: CRCW04020000Z0ED
footprint R0402
pins: 1, 2

## RES0402_1K
designator R?, comment 1K
RES, 0402, 1K; MFG PART NO: CRCW04021K00FKED; ALT_SYMBOLS: R0402_BGA; DEVICE: RES0402_1K; MFG: VISHAY; Vendor: VISHAY/DALE; Vendor PN: CRCW04021K00FKED
footprint R0402
pins: 1, 2

## RES0402_4K75
designator R?, comment 4.75K
RES, 0402, 4.75K, 1%; MFG PART NO: CRCW04024K75FKED; DEVICE: RES0402_4K75; MFG: VISHAY; Vendor: VISHAY/DALE; ALT_SYMBOLS: R0402_BGA; Vendor PN: CRCW04024K75FKED
footprint R0402
pins: 1, 2

## RES0402_4K99
designator R?, comment 4.99K
RES, 0402, 4.99K, 1%; Vendor PN: CRCW04024K99FKED; Vendor: VISHAY/DALE; MFG: VISHAY; DEVICE: RES0402_4K99; ALT_SYMBOLS: R0402_BGA; MFG PART NO: CRCW04024K99FKED
footprint R0402
pins: 1, 2

## RES0402_8K06
designator R?, comment 8.06K
RES, 0402, 8.06K; MFG PART NO: CRCW04028K06FKED; ALT_SYMBOLS: R0402_BGA; DEVICE: RES0402_8K06; MFG: VISHAY; Vendor: VISHAY/DALE; Vendor PN: CRCW04028K06FKED
footprint R0402
pins: 1, 2

## RES0402_10
designator R?, comment 10
RES, 0402, 10, 1%; Vendor PN: CRCW040210R0FKED; Vendor: VISHAY/DALE; MFG: VISHAY; DEVICE: RES0402_10; ALT_SYMBOLS: R0402_BGA; MFG PART NO: CRCW040210R0FKED
footprint R0402
pins: 1, 2

## RES0402_10K
designator R?, comment 10K
RES, 0402, 10K; MFG PART NO: CRCW040210K0FKED; ALT_SYMBOLS: R0402_BGA; DEVICE: RES0402_10K; MFG: VISHAY; Vendor: VISHAY/DALE; Vendor PN: CRCW040210K0FKED
footprint R0402
pins: 1, 2

## RES0402_20K
designator R?, comment 20K
RES, 0402, 20K; Vendor PN: CRCW040220K0FKED; Vendor: VISHAY/DALE; MFG: VISHAY; DEVICE: RES0402_20K; ALT_SYMBOLS: R0402_BGA; MFG PART NO: CRCW040220K0FKED
footprint R0402
pins: 1, 2

## RES0402_22R1
designator R?, comment 22.1
RES, 0402, 22.1, 1%; MFG PART NO: CRCW040222R1FKED; DEVICE: RES0402_22R1; MFG: VISHAY; Vendor: VISHAY/DALE; ALT_SYMBOLS: R0402_BGA; Vendor PN: CRCW040222R1FKED
footprint R0402
pins: 1, 2

## RES0402_27K4
designator R?, comment 27.4K
RES, 0402, 27.4K; Vendor PN: CRCW040227K4FKED; Vendor: VISHAY/DALE; MFG: VISHAY; DEVICE: RES0402_27K4; ALT_SYMBOLS: R0402_BGA; MFG PART NO: CRCW040227K4FKED
footprint R0402
pins: 1, 2

## RES0402_33
designator R?, comment 33
RES, 0402, 33, 1%; MFG PART NO: CRCW040233R0FKED; DEVICE: RES0402_33; MFG: VISHAY; Vendor: VISHAY/DALE; ALT_SYMBOLS: R0402_BGA; Vendor PN: CRCW040233R0FKED
footprint R0402
pins: 1, 2

## RES0402_56K2
designator R?, comment 56.2K
RES, 0402, 56.2K; Vendor PN: CRCW040256K2FKED; Vendor: VISHAY/DALE; MFG: VISHAY; DEVICE: RES0402_56K2; ALY_SYMBOLS: R0402_BGA; MFG PART NO: CRCW040256K2FKED
footprint R0402
pins: 1, 2

## RES0402_80P6
designator R?, comment 80.6
RES, 0402, 80.6, 1%; MFG PART NO: CRCW040280R6FKED; DEVICE: RES0402_80P6; MFG: VISHAY; Vendor: VISHAY/DALE; ALT_SYMBOLS: R0402_BGA; Vendor PN: CRCW040280R6FKED
footprint R0402
pins: 1, 2

## RES0402_100
designator R?, comment 100
RES, 0402, 100, 1%; ALT_SYMBOLS: R0402_BGA; Vendor PN: CRCW0402100RFKED; Vendor: VISHAY/DALE; MFG: VISHAY; DEVICE: RES0402_100; MFG PART NO: CRCW0402100RFKED
footprint R0402
pins: 1, 2

## RES0402_240
designator R?, comment 240
RES, 0402, 240, 1%; MFG PART NO: CRCW0402240RFKED; ALT_SYMBOLS: R0402_BGA; DEVICE: RES0402_240; MFG: VISHAY; Vendor: VISHAY/DALE; Vendor PN: CRCW0402240RFKED
footprint R0402
pins: 1, 2

## RES0402_620
designator R?, comment 620
RES, 0402, 620, 1%; MFG PART NO: CRCW0402620RFKED; ALT_SYMBOLS: R0402_BGA; DEVICE: RES0402_620; MFG: VISHAY; Vendor: VISHAY/DALE; Vendor PN: CRCW0402620RFKED
footprint R0402
pins: 1, 2

## RES0402_887
designator R?, comment 887
RES, 0402, 887; Vendor PN: CRCW0402887RFKED; Vendor: VISHAY/DALE; MFG: VISHAY; DEVICE: RES0402_887; ALY_SYMBOLS: R0402_BGA; MFG PART NO: CRCW0402887RFKED
footprint R0402
pins: 1, 2

## RES0603_24K9
designator R?, comment 24.9K
RES, 0603, 24.9K; Vendor PN: CRCW060324K9FKEA; Vendor: VISHAY/DALE; DEVICE: RES0603_24K9; MFG PART NO: CRCW060324K9FKEA; MFG: VISHAY/DALE
footprint R0603
pins: 1, 2

## RES0603_69K8
designator R?, comment 69.8K
RES, 0603, 69.8K; MFG PART NO: CRCW060369K8FKEA; DEVICE: RES0603_69K8; MFG: VISHAY; Vendor: VISHAY; Vendor PN: CRCW060369K8FKEA
footprint R0603
pins: 1, 2

## RES0603_100K
designator R?, comment 100K
RES, 0603, 100K; Vendor PN: CRCW0603100KFKEA; Vendor: VISHAY/DALE; DEVICE: RES0603_100K; MFG: VISHAY/DALE; MFG PART NO: CRCW0603100KFKEA
footprint R0603
pins: 1, 2

## RJ45-10_100_1000-BELFUSE
designator J?, comment RJ-45  MFG PART NO: L829-1J1T-43
RJ45 JACK, INTEGRATED MAG AND LED; Vendor: BEL FUSE; DEVICE: RJ45-10_100_1000-BELFUSE; Vendor PN: L829-1J1T-43; MFG: BEL FUSE
footprint RJ45_17PINS_2LED
pins: 1 TRCT3, 2 TRD3-, 3 TRD3+, 4 TRD2+, 5 TRD2-, 6 TRCT2, 7 TRCT4, 8 TRD4+, 9 TRD4-, 10 TRD1-, 11 TRD1+, 12 TRCT1, 13 R_CA, 14 R_AN, 15 L_CA1, 16 L_AN, 17 L_CA2, GND1 SHLD1 (power), GND2 SHLD2 (power)

## SN65LVDS4
designator U?, comment DIFF LINE RECEIVER  Vendor PN: SN65LVDS4RSER
IC, LINE RECEIVER, DIFFERENTIAL LVDS, UFQFN10; Vendor: TEXAS INSTRUMENTS; DEVICE: SN65LVDS4; MFG: TEXAS INSTRUMENTS; MFG PART NO: SN65LVDS4RSER
footprint QFN-10_1P55X2P05XP6XP5MMP
pins: 1 GND1 (power), 2 A (in), 3 B (in), 4 NC1, 5 VCC (power), 6 NC2, 7 GND2 (power), 8 R (out), 9 NC3, 10 VDD (power)
text: NC; GND

## SW_PB_SPST_2PIN
designator SW?, comment SW_PB_VERT  Vendor PN: B3U-1000P
SW, PUSHBUTTON, SPST, NORMALLY OPEN, SMT; Vendor: OMRON; DEVICE: SW_PB_SPST_2PIN
footprint SWITCH_2P5X4X1P6MMH
pins: 1 A, 2 B

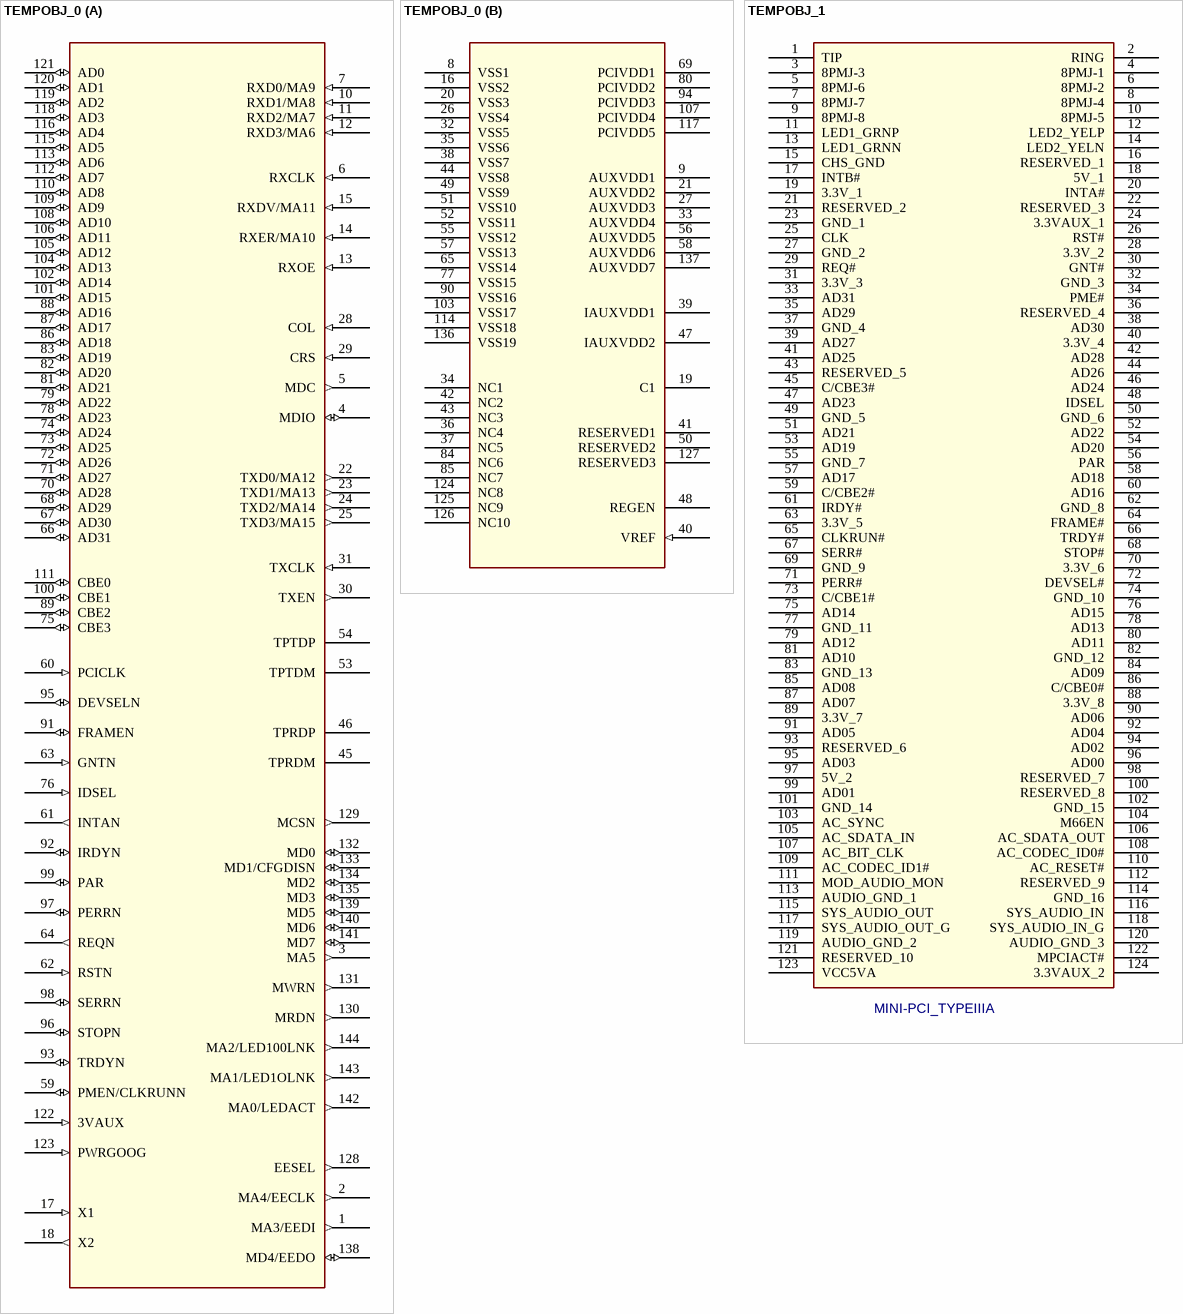
[diagram p14: symbols TEMPOBJ_0 to TEMPOBJ_1]

## TEMPOBJ_0
designator U?, comment ETHERNET_MAC  (value not drawn)
PART_NUMBER: ICXXXXXX; DEVICE: ICXXXXXX
footprint lqfp144_866_19p7
part A pins: 1 MA3/EEDI (out), 2 MA4/EECLK (out), 3 MA5 (out), 4 MDIO (io), 5 MDC (out), 6 RXCLK (in), 7 RXD0/MA9 (in), 10 RXD1/MA8 (in), 11 RXD2/MA7 (in), 12 RXD3/MA6 (in), 13 RXOE (in), 14 RXER/MA10 (in), 15 RXDV/MA11 (in), 17 X1 (in), 18 X2 (out), 22 TXD0/MA12 (out), 23 TXD1/MA13 (out), 24 TXD2/MA14 (out), 25 TXD3/MA15 (out), 28 COL (in), 29 CRS (in), 30 TXEN (out), 31 TXCLK (in), 45 TPRDM, 46 TPRDP, 53 TPTDM, 54 TPTDP, 59 PMEN/CLKRUNN (io), 60 PCICLK (in), 61 INTAN (out), 62 RSTN (in), 63 GNTN (in), 64 REQN (out), 66 AD31 (io), 67 AD30 (io), 68 AD29 (io), 70 AD28 (io), 71 AD27 (io), 72 AD26 (io), 73 AD25 (io), 74 AD24 (io), 75 CBE3 (io), 76 IDSEL (in), 78 AD23 (io), 79 AD22 (io), 81 AD21 (io), 82 AD20 (io), 83 AD19 (io), 86 AD18 (io), 87 AD17 (io), 88 AD16 (io), 89 CBE2 (io), 91 FRAMEN (io), 92 IRDYN (io), 93 TRDYN (io), 95 DEVSELN (io), 96 STOPN (io), 97 PERRN (io), 98 SERRN (io), 99 PAR (io), 100 CBE1 (io), 101 AD15 (io), 102 AD14 (io), 104 AD13 (io), 105 AD12 (io), 106 AD11 (io), 108 AD10 (io), 109 AD9 (io), 110 AD8 (io), 111 CBE0 (io), 112 AD7 (io), 113 AD6 (io), 115 AD5 (io), 116 AD4 (io), 118 AD3 (io), 119 AD2 (io), 120 AD1 (io), 121 AD0 (io), 122 3VAUX (in), 123 PWRGOOG (in), 128 EESEL (out), 129 MCSN (out), 130 MRDN (out), 131 MWRN (out), 132 MD0 (io), 133 MD1/CFGDISN (io), 134 MD2 (io), 135 MD3 (io), 138 MD4/EEDO (io), 139 MD5 (io), 140 MD6 (io), 141 MD7 (io), 142 MA0/LEDACT (out), 143 MA1/LED1OLNK (out), 144 MA2/LED100LNK (out)
part B pins: 8 VSS1 (power), 9 AUXVDD1 (power), 16 VSS2 (power), 19 C1 (power), 20 VSS3 (power), 21 AUXVDD2 (power), 26 VSS4 (power), 27 AUXVDD3 (power), 32 VSS5 (power), 33 AUXVDD4 (power), 34 NC1, 35 VSS6 (power), 36 NC4, 37 NC5, 38 VSS7 (power), 39 IAUXVDD1 (power), 40 VREF (in), 41 RESERVED1, 42 NC2, 43 NC3, 44 VSS8 (power), 47 IAUXVDD2 (power), 48 REGEN, 49 VSS9 (power), 50 RESERVED2, 51 VSS10 (power), 52 VSS11 (power), 55 VSS12 (power), 56 AUXVDD5 (power), 57 VSS13 (power), 58 AUXVDD6 (power), 65 VSS14 (power), 69 PCIVDD1 (power), 77 VSS15 (power), 80 PCIVDD2 (power), 84 NC6, 85 NC7, 90 VSS16 (power), 94 PCIVDD3 (power), 103 VSS17 (power), 107 PCIVDD4 (power), 114 VSS18 (power), 117 PCIVDD5 (power), 124 NC8, 125 NC9, 126 NC10, 127 RESERVED3, 136 VSS19 (power), 137 AUXVDD7 (power)

## TEMPOBJ_1
designator J?, comment MINI-PCI_TYPEIIIA
Mini PCI, 124-pin, Type IIIA, 0.8mm Pitch, 4mm Hight
footprint CON_PCI5V
pins: 1 TIP, 2 RING, 3 8PMJ-3, 4 8PMJ-1, 5 8PMJ-6, 6 8PMJ-2, 7 8PMJ-7, 8 8PMJ-4, 9 8PMJ-8, 10 8PMJ-5, 11 LED1_GRNP, 12 LED2_YELP, 13 LED1_GRNN, 14 LED2_YELN, 15 CHS_GND, 16 RESERVED_1, 17 INTB#, 18 5V_1, 19 3.3V_1, 20 INTA#, 21 RESERVED_2, 22 RESERVED_3, 23 GND_1, 24 3.3VAUX_1, 25 CLK, 26 RST#, 27 GND_2, 28 3.3V_2, 29 REQ#, 30 GNT#, 31 3.3V_3, 32 GND_3, 33 AD31, 34 PME#, 35 AD29, 36 RESERVED_4, 37 GND_4, 38 AD30, 39 AD27, 40 3.3V_4, 41 AD25, 42 AD28, 43 RESERVED_5, 44 AD26, 45 C/CBE3#, 46 AD24, 47 AD23, 48 IDSEL, 49 GND_5, 50 GND_6, 51 AD21, 52 AD22, 53 AD19, 54 AD20, 55 GND_7, 56 PAR, 57 AD17, 58 AD18, 59 C/CBE2#, 60 AD16, 61 IRDY#, 62 GND_8, 63 3.3V_5, 64 FRAME#, 65 CLKRUN#, 66 TRDY#, 67 SERR#, 68 STOP#, 69 GND_9, 70 3.3V_6, 71 PERR#, 72 DEVSEL#, 73 C/CBE1#, 74 GND_10, 75 AD14, 76 AD15, 77 GND_11, 78 AD13, 79 AD12, 80 AD11, 81 AD10, 82 GND_12, 83 GND_13, 84 AD09, 85 AD08, 86 C/CBE0#, 87 AD07, 88 3.3V_8, 89 3.3V_7, 90 AD06, 91 AD05, 92 AD04, 93 RESERVED_6, 94 AD02, 95 AD03, 96 AD00, 97 5V_2, 98 RESERVED_7, 99 AD01, 100 RESERVED_8, 101 GND_14, 102 GND_15, 103 AC_SYNC, 104 M66EN, 105 AC_SDATA_IN, 106 AC_SDATA_OUT, 107 AC_BIT_CLK, 108 AC_CODEC_ID0#, 109 AC_CODEC_ID1#, 110 AC_RESET#, 111 MOD_AUDIO_MON, 112 RESERVED_9, 113 AUDIO_GND_1, 114 GND_16, 115 SYS_AUDIO_OUT, 116 SYS_AUDIO_IN, 117 SYS_AUDIO_OUT_G, 118 SYS_AUDIO_IN_G, 119 AUDIO_GND_2, 120 AUDIO_GND_3, 121 RESERVED_10, 122 MPCIACT#, 123 VCC5VA, 124 3.3VAUX_2

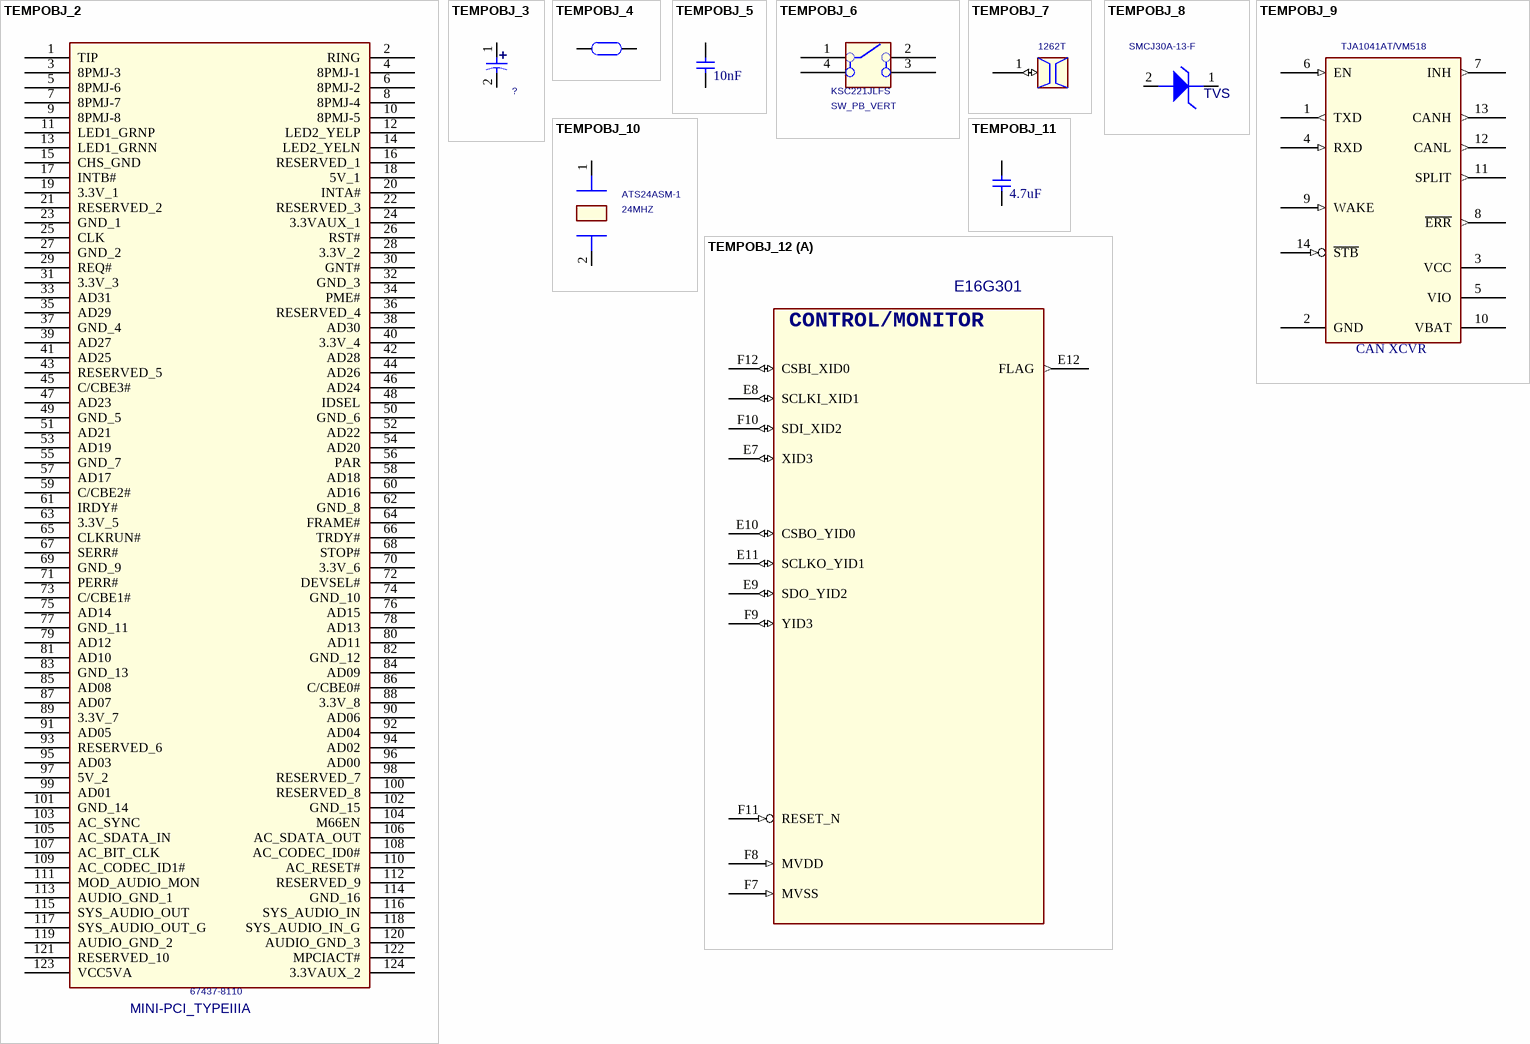
[diagram p15: symbols TEMPOBJ_2 to TEMPOBJ_12]

## TEMPOBJ_2
designator J?, comment MINI-PCI_TYPEIIIA  PART_NUMBER: 67437-8110
Mini PCI, 124-pin, Type IIIA, 0.8mm Pitch, 4mm Hight; DEVICE: MINIPCI_TYPEIIIA
footprint CON_PCI5V
pins: 1 TIP, 2 RING, 3 8PMJ-3, 4 8PMJ-1, 5 8PMJ-6, 6 8PMJ-2, 7 8PMJ-7, 8 8PMJ-4, 9 8PMJ-8, 10 8PMJ-5, 11 LED1_GRNP, 12 LED2_YELP, 13 LED1_GRNN, 14 LED2_YELN, 15 CHS_GND, 16 RESERVED_1, 17 INTB#, 18 5V_1, 19 3.3V_1, 20 INTA#, 21 RESERVED_2, 22 RESERVED_3, 23 GND_1, 24 3.3VAUX_1, 25 CLK, 26 RST#, 27 GND_2, 28 3.3V_2, 29 REQ#, 30 GNT#, 31 3.3V_3, 32 GND_3, 33 AD31, 34 PME#, 35 AD29, 36 RESERVED_4, 37 GND_4, 38 AD30, 39 AD27, 40 3.3V_4, 41 AD25, 42 AD28, 43 RESERVED_5, 44 AD26, 45 C/CBE3#, 46 AD24, 47 AD23, 48 IDSEL, 49 GND_5, 50 GND_6, 51 AD21, 52 AD22, 53 AD19, 54 AD20, 55 GND_7, 56 PAR, 57 AD17, 58 AD18, 59 C/CBE2#, 60 AD16, 61 IRDY#, 62 GND_8, 63 3.3V_5, 64 FRAME#, 65 CLKRUN#, 66 TRDY#, 67 SERR#, 68 STOP#, 69 GND_9, 70 3.3V_6, 71 PERR#, 72 DEVSEL#, 73 C/CBE1#, 74 GND_10, 75 AD14, 76 AD15, 77 GND_11, 78 AD13, 79 AD12, 80 AD11, 81 AD10, 82 GND_12, 83 GND_13, 84 AD09, 85 AD08, 86 C/CBE0#, 87 AD07, 88 3.3V_8, 89 3.3V_7, 90 AD06, 91 AD05, 92 AD04, 93 RESERVED_6, 94 AD02, 95 AD03, 96 AD00, 97 5V_2, 98 RESERVED_7, 99 AD01, 100 RESERVED_8, 101 GND_14, 102 GND_15, 103 AC_SYNC, 104 M66EN, 105 AC_SDATA_IN, 106 AC_SDATA_OUT, 107 AC_BIT_CLK, 108 AC_CODEC_ID0#, 109 AC_CODEC_ID1#, 110 AC_RESET#, 111 MOD_AUDIO_MON, 112 RESERVED_9, 113 AUDIO_GND_1, 114 GND_16, 115 SYS_AUDIO_OUT, 116 SYS_AUDIO_IN, 117 SYS_AUDIO_OUT_G, 118 SYS_AUDIO_IN_G, 119 AUDIO_GND_2, 120 AUDIO_GND_3, 121 RESERVED_10, 122 MPCIACT#, 123 VCC5VA, 124 3.3VAUX_2

## TEMPOBJ_3
designator C?, comment CAP_TANTB  (value not drawn)
DEVICE: CAP_TANTB; VAL: ?
footprint TANTB_3528
pins: 1, 2
text: +

## TEMPOBJ_4
designator FB?, comment 30-OHM@100MHz  (value not drawn)
FERRITE, BEAD, 0805, 30 @ 100MHZ, SMT; Mfg Part No: BLM21PG300SN1B; Mfg: MURATA; DEVICE: BLM21PG300SN1
footprint FBEAD_1806
pins: 1, 2

## TEMPOBJ_5
designator C?, comment 10nF
CAP, 0402, 10NF, X7R, 16V; MFG PART NO: C1005X7R1C103K; MFG: TDK; ALT_SYMBOLS: C0402_BGA; Vendor: TDK; Vendor PN: C1005X7R1C103K
footprint C0402
pins: 1, 2

## TEMPOBJ_6
designator SW?, comment SW_PB_VERT  Vendor PN: KSC221JLFS
SW, PUSHBUTTON, SPST, SMT; DEVICE: SW_PB_SPST_KST; Vendor: C&K
footprint SW4P_6P2_SQ_SM
pins: 1 A, 2 B, 3 B1, 4 A1

## TEMPOBJ_7
designator J?, comment 1262T
CONN, 1X1, WIRE GRIPPER, 0.025, SMT; Vendor: ZIERICK; DEVICE: WIRE_GRIP_1X1_VERT; Vendor PN: 1262T; DIGIKEY: 2663S-01-ND; MFG PART NO: 1262T; MFG: ZIERICK
footprint 1262T
pins: 1 (io)

## TEMPOBJ_8
designator D?, comment TVS  Vendor PN: SMCJ30A-13-F
DIODE, TVS, UNDER 30V, 1500W, SMC; Vendor: DIODES INC; DEVICE: DIODE_1SMC30AT3G; MFG: DIODES INC; MFG PART NO: SMCJ30A-13-F
footprint CASE403-03
pins: 1 CATHODE, 2 ANODE

## TEMPOBJ_9
designator U?, comment CAN XCVR  Vendor PN: TJA1041AT/VM518
IC, CAN XCVR, HS, SOIC14; DEVICE: IC_CAN_XCVR; Vendor: NXP
footprint SOIC14_244X350_69H_50P
pins: 1 TXD (out), 2 GND (power), 3 VCC (power), 4 RXD (in), 5 VIO (power), 6 EN (in), 7 INH (out), 8 ~{ERR} (out), 9 WAKE (in), 10 VBAT (power), 11 SPLIT (out), 12 CANL (out), 13 CANH (out), 14 ~{STB} (in)

## TEMPOBJ_10
designator X?, comment 24MHZ  Vendor PN: ATS24ASM-1
XTAL, 24MHz, 20pF, SMD; Vendor: CTS; DEVICE: CRYSTAL_24MHZ
footprint CRY2P_4P7X11P1X3P68MMH_TH
pins: 1, 2

## TEMPOBJ_11
designator C?, comment 4.7uF
CAP, 0402, 4.7UF, X5R, 6.3V; ALT_SYMBOLS: C0402_BGA; Vendor PN: C1005X5R0J475K; Vendor: TDK; DEVICE: CAP0402_4P7UF_X5R; MFG: TDK; MFG PART NO: C1005X5R0J475K
footprint C0402
pins: 1, 2

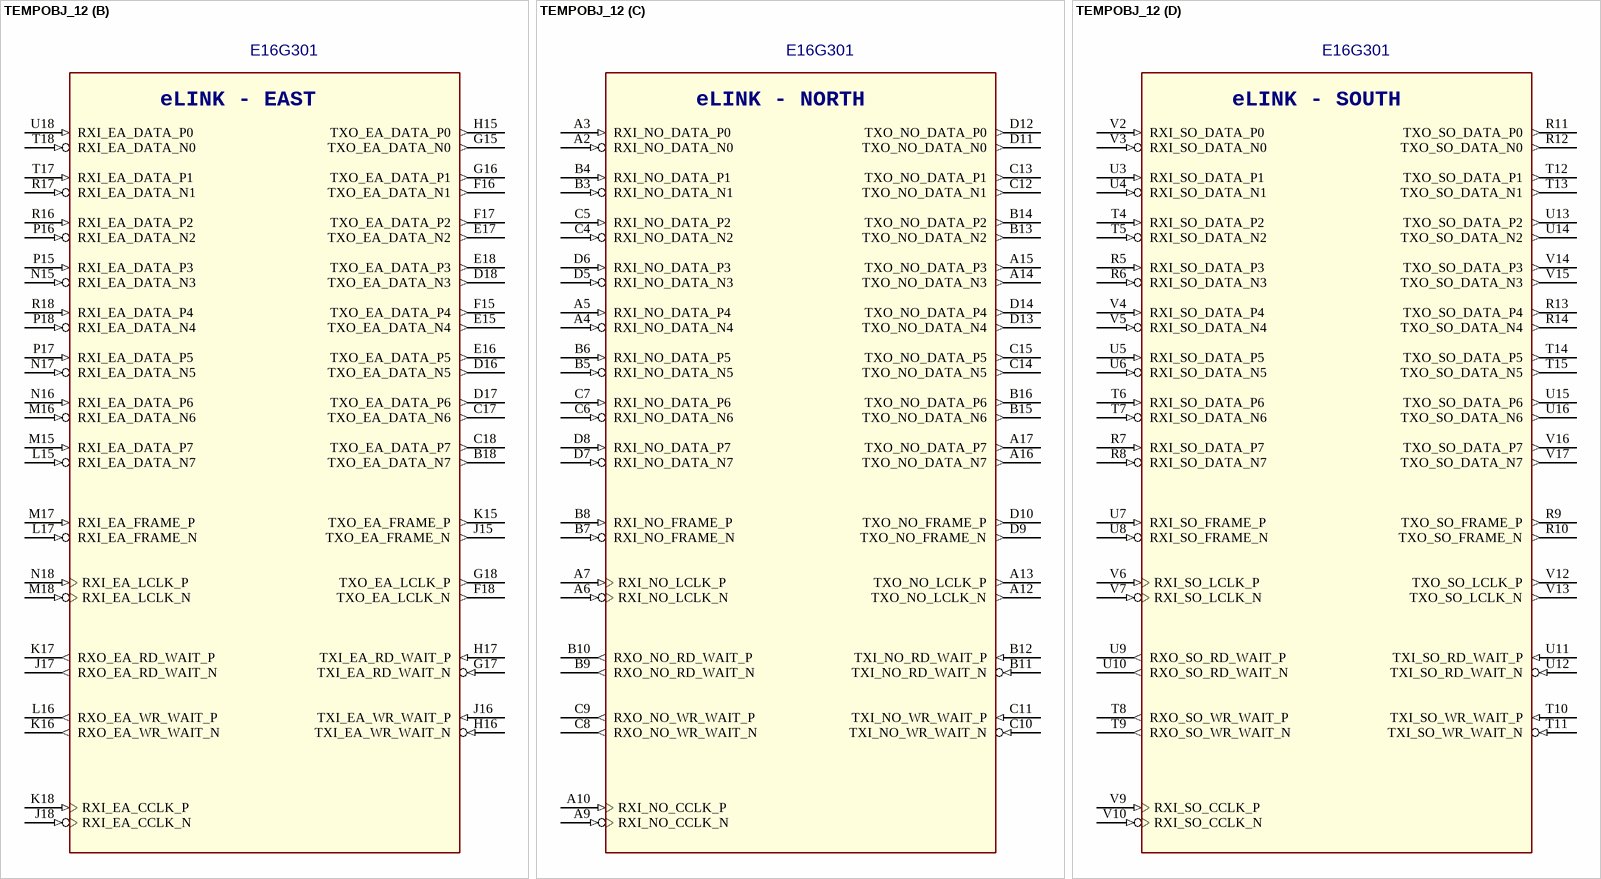
[diagram p16: symbol TEMPOBJ_12]

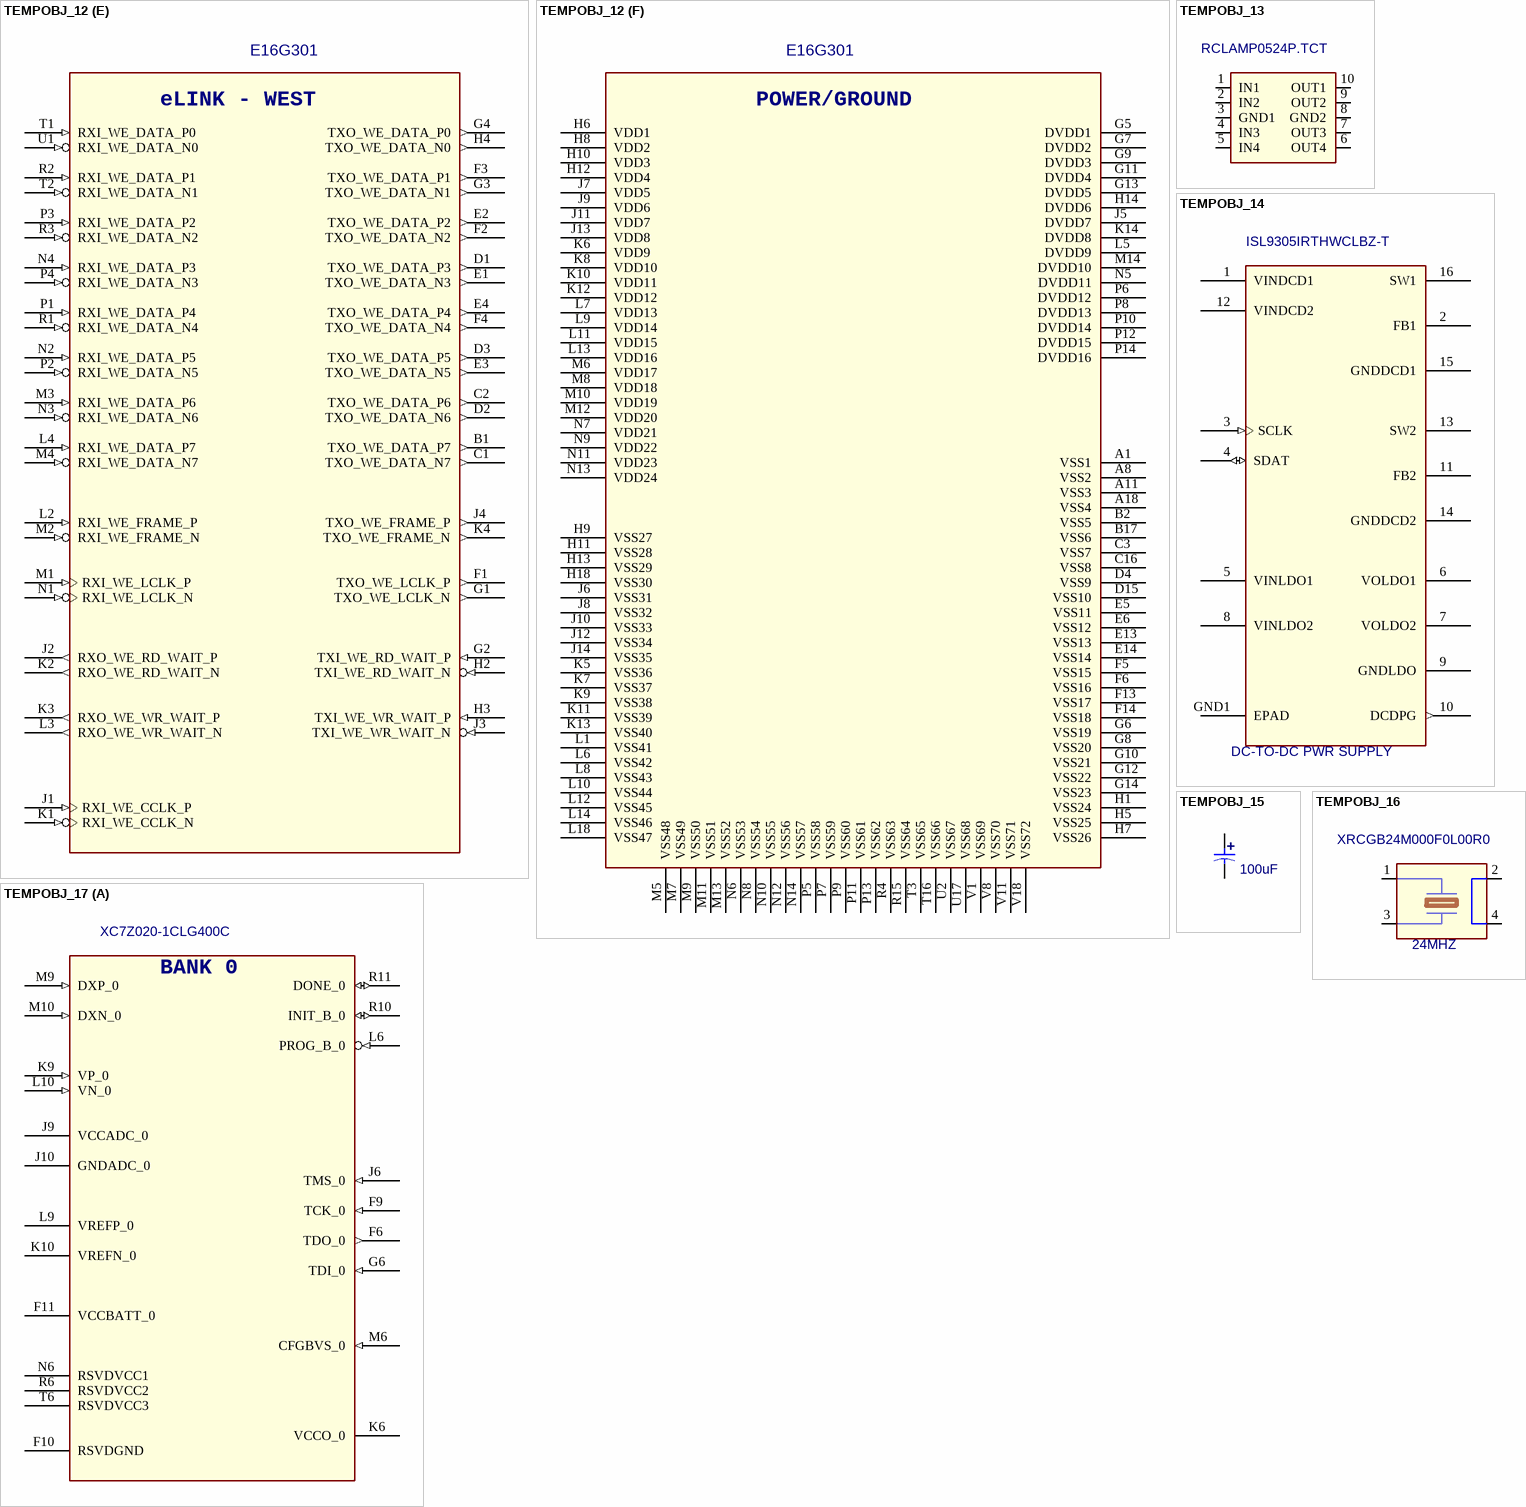
[diagram p17: symbols TEMPOBJ_12 to TEMPOBJ_17]

## TEMPOBJ_12
designator U?, comment Vendor PN: E16G301  (hidden comment: 16-CORE MICROPROCESSOR)
IC, 16-CORE MICROPROCESSOR, ADAPTEVA, E16G301, BGA324; DEVICE: EPIPHANY_E16G301; SPLIT_INST: TRUE; Vendor: ADAPTEVA
footprint CLG400
part A pins: E7 XID3 (io), E8 SCLKI_XID1 (io), E9 SDO_YID2 (io), E10 CSBO_YID0 (io), E11 SCLKO_YID1 (io), E12 FLAG (out), F7 MVSS (in), F8 MVDD (in), F9 YID3 (io), F10 SDI_XID2 (io), F11 RESET_N (in), F12 CSBI_XID0 (io)
part B pins: B18 TXO_EA_DATA_N7 (out), C17 TXO_EA_DATA_N6 (out), C18 TXO_EA_DATA_P7 (out), D16 TXO_EA_DATA_N5 (out), D17 TXO_EA_DATA_P6 (out), D18 TXO_EA_DATA_N3 (out), E15 TXO_EA_DATA_N4 (out), E16 TXO_EA_DATA_P5 (out), E17 TXO_EA_DATA_N2 (out), E18 TXO_EA_DATA_P3 (out), F15 TXO_EA_DATA_P4 (out), F16 TXO_EA_DATA_N1 (out), F17 TXO_EA_DATA_P2 (out), F18 TXO_EA_LCLK_N (out), G15 TXO_EA_DATA_N0 (out), G16 TXO_EA_DATA_P1 (out), G17 TXI_EA_RD_WAIT_N (in), G18 TXO_EA_LCLK_P (out), H15 TXO_EA_DATA_P0 (out), H16 TXI_EA_WR_WAIT_N (in), H17 TXI_EA_RD_WAIT_P (in), J15 TXO_EA_FRAME_N (out), J16 TXI_EA_WR_WAIT_P (in), J17 RXO_EA_RD_WAIT_N (out), J18 RXI_EA_CCLK_N (in), K15 TXO_EA_FRAME_P (out), K16 RXO_EA_WR_WAIT_N (out), K17 RXO_EA_RD_WAIT_P (out), K18 RXI_EA_CCLK_P (in), L15 RXI_EA_DATA_N7 (in), L16 RXO_EA_WR_WAIT_P (out), L17 RXI_EA_FRAME_N (in), M15 RXI_EA_DATA_P7 (in), M16 RXI_EA_DATA_N6 (in), M17 RXI_EA_FRAME_P (in), M18 RXI_EA_LCLK_N (in), N15 RXI_EA_DATA_N3 (in), N16 RXI_EA_DATA_P6 (in), N17 RXI_EA_DATA_N5 (in), N18 RXI_EA_LCLK_P (in), P15 RXI_EA_DATA_P3 (in), P16 RXI_EA_DATA_N2 (in), P17 RXI_EA_DATA_P5 (in), P18 RXI_EA_DATA_N4 (in), R16 RXI_EA_DATA_P2 (in), R17 RXI_EA_DATA_N1 (in), R18 RXI_EA_DATA_P4 (in), T17 RXI_EA_DATA_P1 (in), T18 RXI_EA_DATA_N0 (in), U18 RXI_EA_DATA_P0 (in)
part C pins: A2 RXI_NO_DATA_N0 (in), A3 RXI_NO_DATA_P0 (in), A4 RXI_NO_DATA_N4 (in), A5 RXI_NO_DATA_P4 (in), A6 RXI_NO_LCLK_N (in), A7 RXI_NO_LCLK_P (in), A9 RXI_NO_CCLK_N (in), A10 RXI_NO_CCLK_P (in), A12 TXO_NO_LCLK_N (out), A13 TXO_NO_LCLK_P (out), A14 TXO_NO_DATA_N3 (out), A15 TXO_NO_DATA_P3 (out), A16 TXO_NO_DATA_N7 (out), A17 TXO_NO_DATA_P7 (out), B3 RXI_NO_DATA_N1 (in), B4 RXI_NO_DATA_P1 (in), B5 RXI_NO_DATA_N5 (in), B6 RXI_NO_DATA_P5 (in), B7 RXI_NO_FRAME_N (in), B8 RXI_NO_FRAME_P (in), B9 RXO_NO_RD_WAIT_N (out), B10 RXO_NO_RD_WAIT_P (out), B11 TXI_NO_RD_WAIT_N (in), B12 TXI_NO_RD_WAIT_P (in), B13 TXO_NO_DATA_N2 (out), B14 TXO_NO_DATA_P2 (out), B15 TXO_NO_DATA_N6 (out), B16 TXO_NO_DATA_P6 (out), C4 RXI_NO_DATA_N2 (in), C5 RXI_NO_DATA_P2 (in), C6 RXI_NO_DATA_N6 (in), C7 RXI_NO_DATA_P6 (in), C8 RXO_NO_WR_WAIT_N (out), C9 RXO_NO_WR_WAIT_P (out), C10 TXI_NO_WR_WAIT_N (in), C11 TXI_NO_WR_WAIT_P (in), C12 TXO_NO_DATA_N1 (out), C13 TXO_NO_DATA_P1 (out), C14 TXO_NO_DATA_N5 (out), C15 TXO_NO_DATA_P5 (out), D5 RXI_NO_DATA_N3 (in), D6 RXI_NO_DATA_P3 (in), D7 RXI_NO_DATA_N7 (in), D8 RXI_NO_DATA_P7 (in), D9 TXO_NO_FRAME_N (out), D10 TXO_NO_FRAME_P (out), D11 TXO_NO_DATA_N0 (out), D12 TXO_NO_DATA_P0 (out), D13 TXO_NO_DATA_N4 (out), D14 TXO_NO_DATA_P4 (out)
part D pins: R5 RXI_SO_DATA_P3 (in), R6 RXI_SO_DATA_N3 (in), R7 RXI_SO_DATA_P7 (in), R8 RXI_SO_DATA_N7 (in), R9 TXO_SO_FRAME_P (out), R10 TXO_SO_FRAME_N (out), R11 TXO_SO_DATA_P0 (out), R12 TXO_SO_DATA_N0 (out), R13 TXO_SO_DATA_P4 (out), R14 TXO_SO_DATA_N4 (out), T4 RXI_SO_DATA_P2 (in), T5 RXI_SO_DATA_N2 (in), T6 RXI_SO_DATA_P6 (in), T7 RXI_SO_DATA_N6 (in), T8 RXO_SO_WR_WAIT_P (out), T9 RXO_SO_WR_WAIT_N (out), T10 TXI_SO_WR_WAIT_P (in), T11 TXI_SO_WR_WAIT_N (in), T12 TXO_SO_DATA_P1 (out), T13 TXO_SO_DATA_N1 (out), T14 TXO_SO_DATA_P5 (out), T15 TXO_SO_DATA_N5 (out), U3 RXI_SO_DATA_P1 (in), U4 RXI_SO_DATA_N1 (in), U5 RXI_SO_DATA_P5 (in), U6 RXI_SO_DATA_N5 (in), U7 RXI_SO_FRAME_P (in), U8 RXI_SO_FRAME_N (in), U9 RXO_SO_RD_WAIT_P (out), U10 RXO_SO_RD_WAIT_N (out), U11 TXI_SO_RD_WAIT_P (in), U12 TXI_SO_RD_WAIT_N (in), U13 TXO_SO_DATA_P2 (out), U14 TXO_SO_DATA_N2 (out), U15 TXO_SO_DATA_P6 (out), U16 TXO_SO_DATA_N6 (out), V2 RXI_SO_DATA_P0 (in), V3 RXI_SO_DATA_N0 (in), V4 RXI_SO_DATA_P4 (in), V5 RXI_SO_DATA_N4 (in), V6 RXI_SO_LCLK_P (in), V7 RXI_SO_LCLK_N (in), V9 RXI_SO_CCLK_P (in), V10 RXI_SO_CCLK_N (in), V12 TXO_SO_LCLK_P (out), V13 TXO_SO_LCLK_N (out), V14 TXO_SO_DATA_P3 (out), V15 TXO_SO_DATA_N3 (out), V16 TXO_SO_DATA_P7 (out), V17 TXO_SO_DATA_N7 (out)
part E pins: B1 TXO_WE_DATA_P7 (out), C1 TXO_WE_DATA_N7 (out), C2 TXO_WE_DATA_P6 (out), D1 TXO_WE_DATA_P3 (out), D2 TXO_WE_DATA_N6 (out), D3 TXO_WE_DATA_P5 (out), E1 TXO_WE_DATA_N3 (out), E2 TXO_WE_DATA_P2 (out), E3 TXO_WE_DATA_N5 (out), E4 TXO_WE_DATA_P4 (out), F1 TXO_WE_LCLK_P (out), F2 TXO_WE_DATA_N2 (out), F3 TXO_WE_DATA_P1 (out), F4 TXO_WE_DATA_N4 (out), G1 TXO_WE_LCLK_N (out), G2 TXI_WE_RD_WAIT_P (in), G3 TXO_WE_DATA_N1 (out), G4 TXO_WE_DATA_P0 (out), H2 TXI_WE_RD_WAIT_N (in), H3 TXI_WE_WR_WAIT_P (in), H4 TXO_WE_DATA_N0 (out), J1 RXI_WE_CCLK_P (in), J2 RXO_WE_RD_WAIT_P (out), J3 TXI_WE_WR_WAIT_N (in), J4 TXO_WE_FRAME_P (out), K1 RXI_WE_CCLK_N (in), K2 RXO_WE_RD_WAIT_N (out), K3 RXO_WE_WR_WAIT_P (out), K4 TXO_WE_FRAME_N (out), L2 RXI_WE_FRAME_P (in), L3 RXO_WE_WR_WAIT_N (out), L4 RXI_WE_DATA_P7 (in), M1 RXI_WE_LCLK_P (in), M2 RXI_WE_FRAME_N (in), M3 RXI_WE_DATA_P6 (in), M4 RXI_WE_DATA_N7 (in), N1 RXI_WE_LCLK_N (in), N2 RXI_WE_DATA_P5 (in), N3 RXI_WE_DATA_N6 (in), N4 RXI_WE_DATA_P3 (in), P1 RXI_WE_DATA_P4 (in), P2 RXI_WE_DATA_N5 (in), P3 RXI_WE_DATA_P2 (in), P4 RXI_WE_DATA_N3 (in), R1 RXI_WE_DATA_N4 (in), R2 RXI_WE_DATA_P1 (in), R3 RXI_WE_DATA_N2 (in), T1 RXI_WE_DATA_P0 (in), T2 RXI_WE_DATA_N1 (in), U1 RXI_WE_DATA_N0 (in)
part F pins: A1 VSS1 (power), A8 VSS2 (power), A11 VSS3 (power), A18 VSS4 (power), B2 VSS5 (power), B17 VSS6 (power), C3 VSS7 (power), C16 VSS8 (power), D4 VSS9 (power), D15 VSS10 (power), E5 VSS11 (power), E6 VSS12 (power), E13 VSS13 (power), E14 VSS14 (power), F5 VSS15 (power), F6 VSS16 (power), F13 VSS17 (power), F14 VSS18 (power), G5 DVDD1 (power), G6 VSS19 (power), G7 DVDD2 (power), G8 VSS20 (power), G9 DVDD3 (power), G10 VSS21 (power), G11 DVDD4 (power), G12 VSS22 (power), G13 DVDD5 (power), G14 VSS23 (power), H1 VSS24 (power), H5 VSS25 (power), H6 VDD1 (power), H7 VSS26 (power), H8 VDD2 (power), H9 VSS27 (power), H10 VDD3 (power), H11 VSS28 (power), H12 VDD4 (power), H13 VSS29 (power), H14 DVDD6 (power), H18 VSS30 (power), J5 DVDD7 (power), J6 VSS31 (power), J7 VDD5 (power), J8 VSS32 (power), J9 VDD6 (power), J10 VSS33 (power), J11 VDD7 (power), J12 VSS34 (power), J13 VDD8 (power), J14 VSS35 (power), K5 VSS36 (power), K6 VDD9 (power), K7 VSS37 (power), K8 VDD10 (power), K9 VSS38 (power), K10 VDD11 (power), K11 VSS39 (power), K12 VDD12 (power), K13 VSS40 (power), K14 DVDD8 (power), L1 VSS41 (power), L5 DVDD9 (power), L6 VSS42 (power), L7 VDD13 (power), L8 VSS43 (power), L9 VDD14 (power), L10 VSS44 (power), L11 VDD15 (power), L12 VSS45 (power), L13 VDD16 (power), L14 VSS46 (power), L18 VSS47 (power), M5 VSS48 (power), M6 VDD17 (power), M7 VSS49 (power), M8 VDD18 (power), M9 VSS50 (power), M10 VDD19 (power), M11 VSS51 (power), M12 VDD20 (power), M13 VSS52 (power), M14 DVDD10 (power), N5 DVDD11 (power), N6 VSS53 (power), N7 VDD21 (power), N8 VSS54 (power), N9 VDD22 (power), N10 VSS55 (power), N11 VDD23 (power), N12 VSS56 (power), N13 VDD24 (power), N14 VSS57 (power), P5 VSS58 (power), P6 DVDD12 (power), P7 VSS59 (power), P8 DVDD13 (power), P9 VSS60 (power), P10 DVDD14 (power), P11 VSS61 (power), P12 DVDD15 (power), P13 VSS62 (power), P14 DVDD16 (power), R4 VSS63 (power), R15 VSS64 (power), T3 VSS65 (power), T16 VSS66 (power), U2 VSS67 (power), U17 VSS68 (power), V1 VSS69 (power), V8 VSS70 (power), V11 VSS71 (power), V18 VSS72 (power)
part A text: CONTROL/MONITOR
part B text: eLINK - EAST
part C text: eLINK - NORTH
part D text: eLINK - SOUTH
part E text: eLINK - WEST
part F text: POWER/GROUND

## TEMPOBJ_13
designator TVS?, comment Vendor PN: RCLAMP0524P.TCT  (hidden comment: TVS)
IC, TVS ARRAY,4-LINES, 10PIN, SMT; Vendor: SAMTECH; DEVICE: TVS_RCLAMP_HDMI; MFG: SEMTECH; CLASS: IC; MFG PART NO: RCLAMP0524P.TCT
footprint 10P_SMT
pins: 1 IN1 (io), 2 IN2 (io), 3 GND1 (power), 4 IN3 (io), 5 IN4 (io), 6 OUT4 (io), 7 OUT3 (io), 8 GND2 (power), 9 OUT2 (io), 10 OUT1 (io)

## TEMPOBJ_14
designator U?, comment DC-TO-DC PWR SUPPLY  Vendor PN: ISL9305IRTHWCLBZ-T
IC, dual step-down converters + dual LDOs, I2C interface, TQFN16; MFG: INTERSIL; DEVICE: IC_ISL9305_DCDC_CONV; MFG PART NO: ISL9305IRTHWCLBZ-T; Vendor: INTERSIL
footprint TQFN16
pins: 1 VINDCD1, 2 FB1, 3 SCLK (in), 4 SDAT (io), 5 VINLDO1, 6 VOLDO1, 7 VOLDO2, 8 VINLDO2, 9 GNDLDO (power), 10 DCDPG (out), 11 FB2, 12 VINDCD2, 13 SW2, 14 GNDDCD2 (power), 15 GNDDCD1 (power), 16 SW1, GND1 EPAD

## TEMPOBJ_15
designator C?, comment 100uF
CAP, TANT A, 100UF, 6.3V, 10%; Vendor PN: F930J107KAA; Vendor: NICHICON; DEVICE: CAP_TANTA_100UF_6P3V; Voltage: 6.3V; Tolerance: 10%; MFG: NICHICON; MFG PART NO: F930J107KAA
footprint C1206
pins: 1, 2
text: +

## TEMPOBJ_16
designator Y?, comment 24MHZ  Vendor PN: XRCGB24M000F0L00R0
XTAL, 2X1.6MM, 24MHZ, 4PIN, SMT; DEVICE: CRYSTAL_4P_24MHZ; Vendor: MURATA
footprint XTAL_2X1P6MM_4P
pins: 1, 2, 3, 4

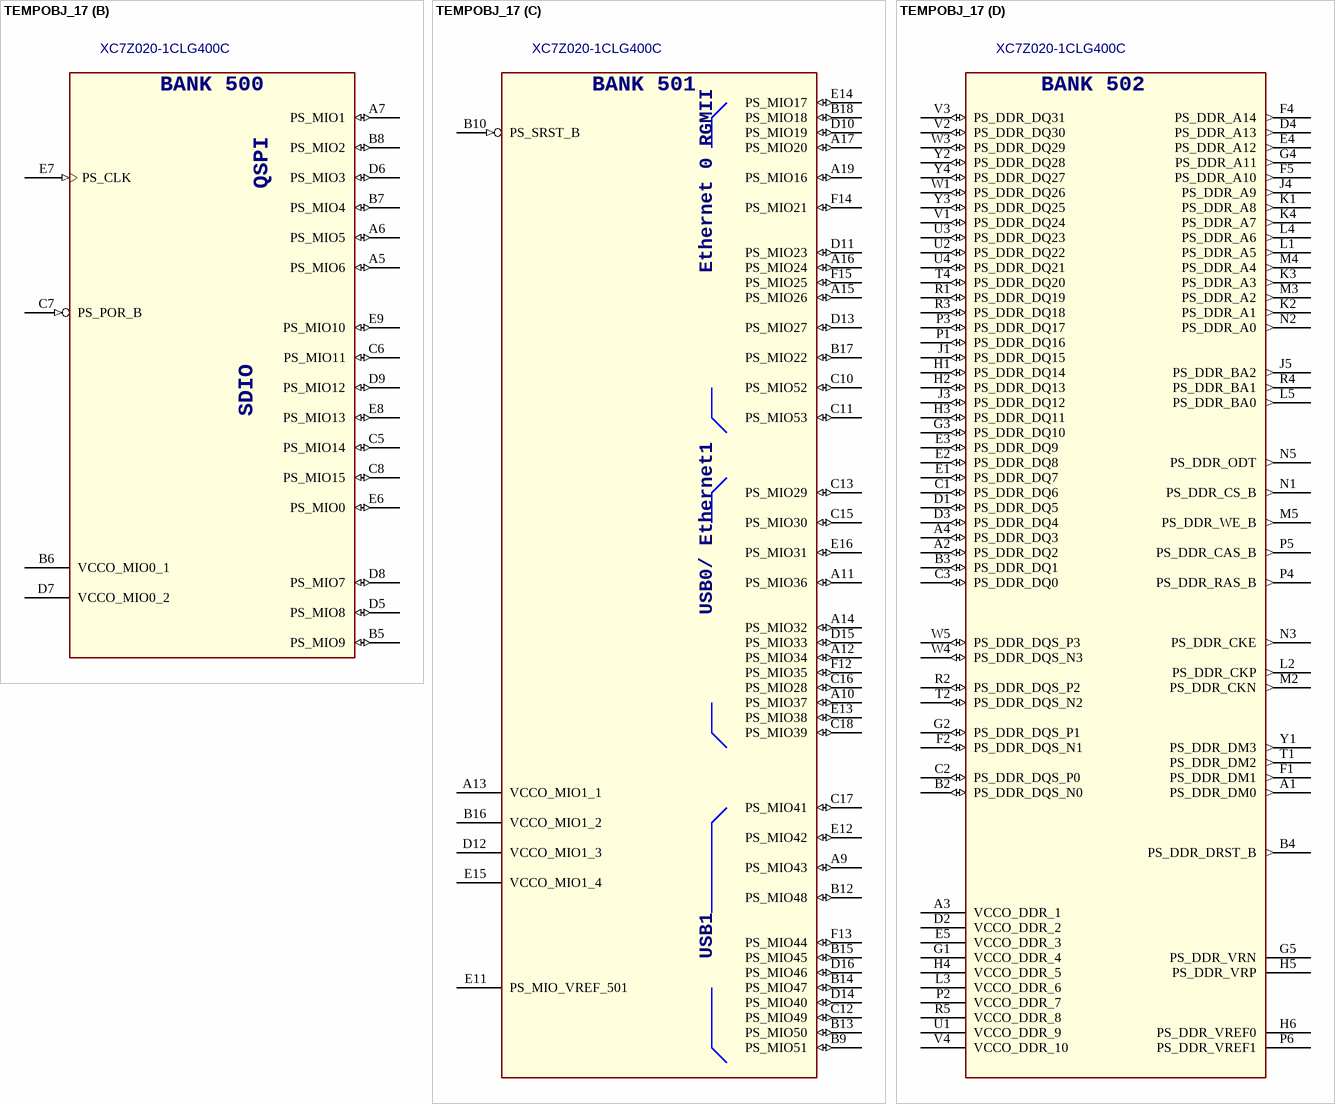
[diagram p18: symbol TEMPOBJ_17]

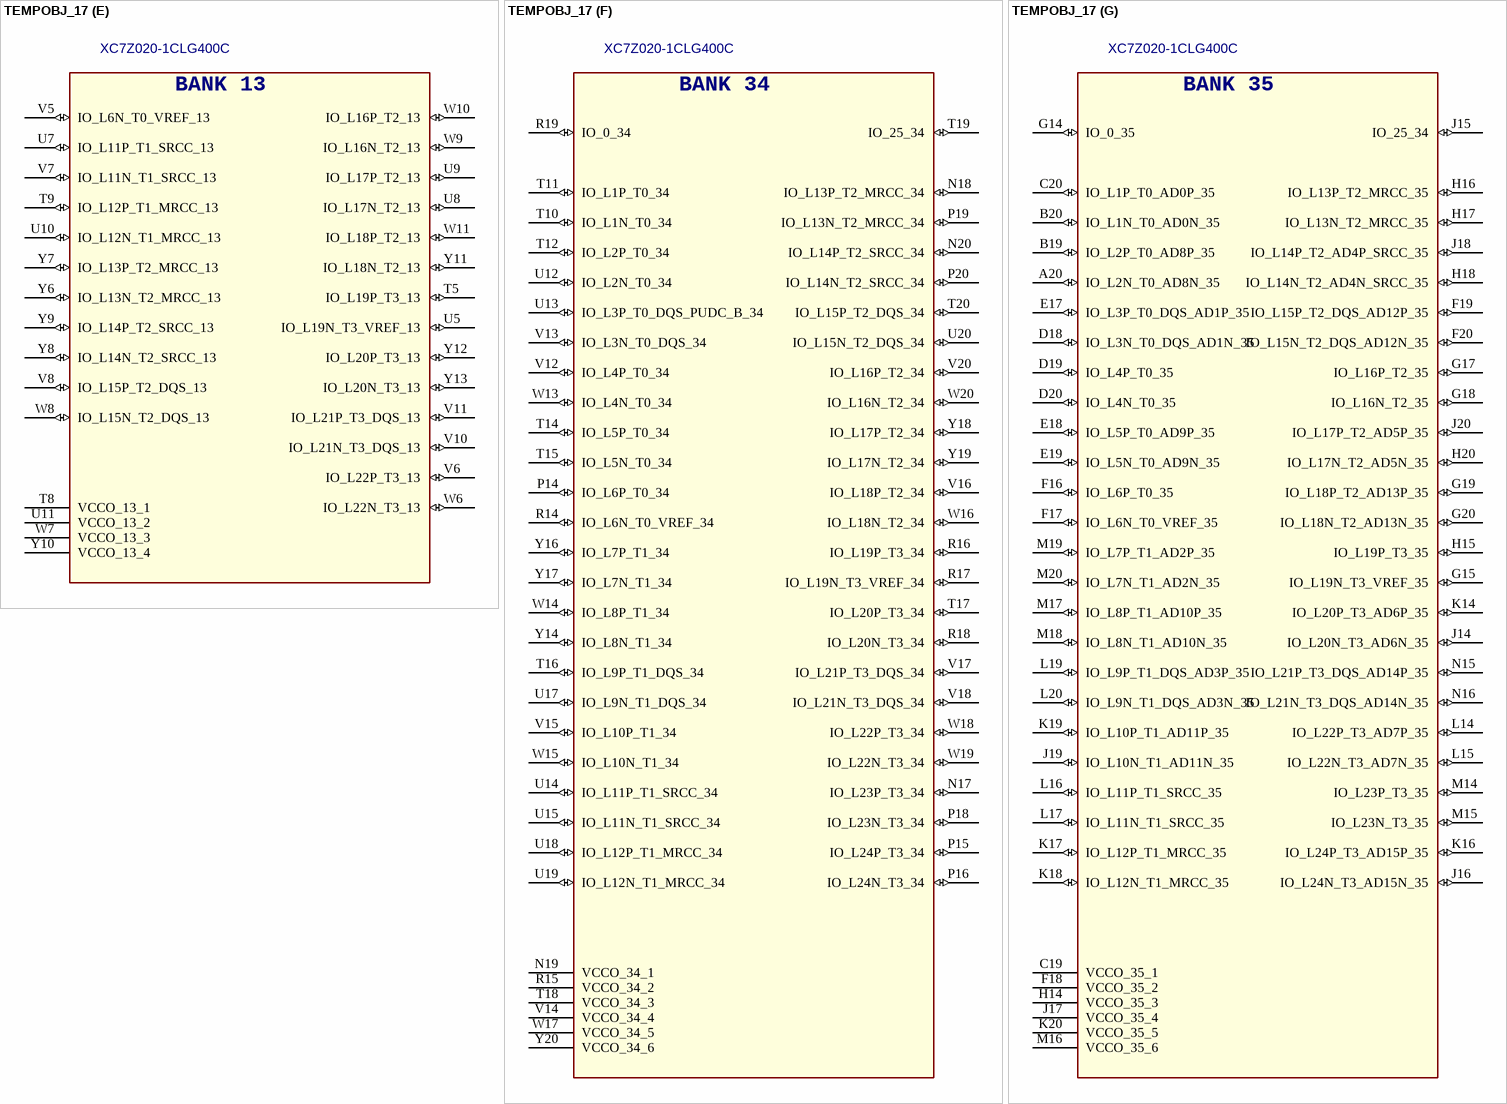
[diagram p19: symbol TEMPOBJ_17]

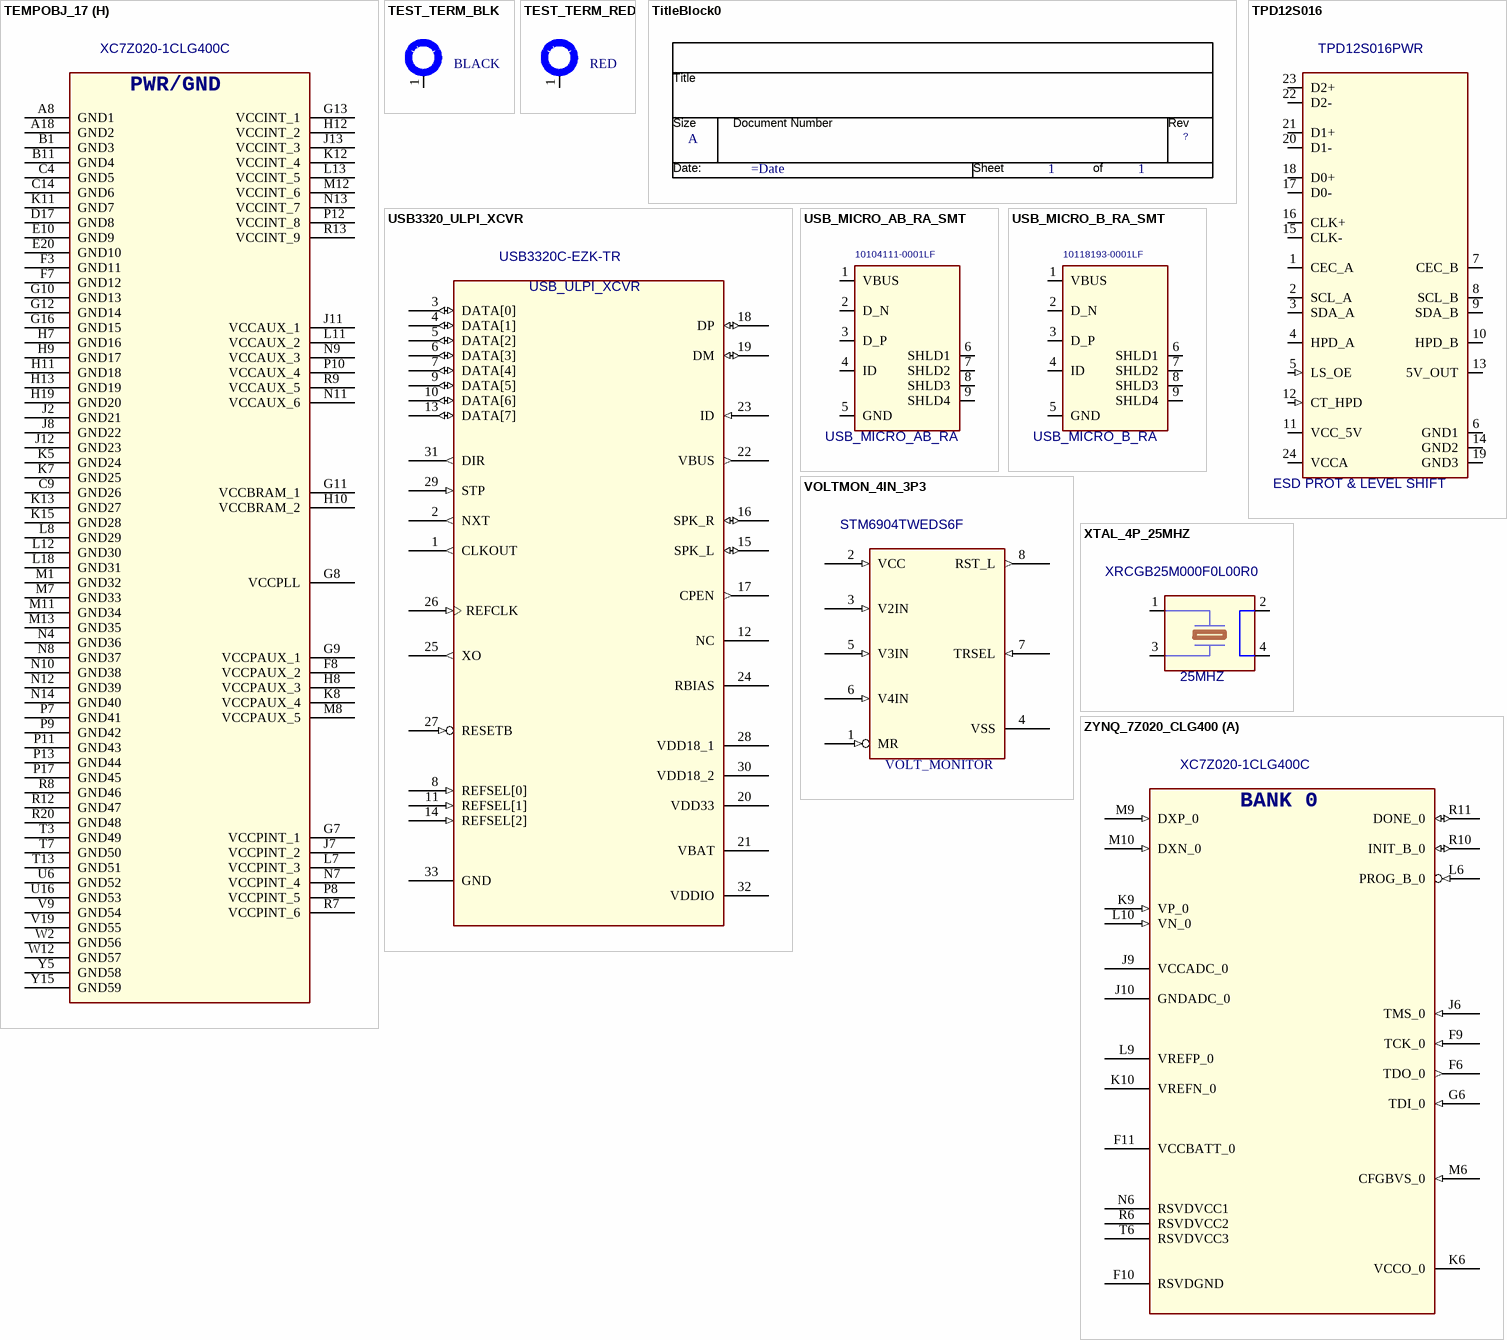
[diagram p20: symbols TEMPOBJ_17 to ZYNQ_7Z020_CLG400]